# Altium schematic symbol library Sch_Lib.SchLib: 138 symbols (part 1 of 2)
Pins are listed as number, name and electrical type; pins without a type are passive.

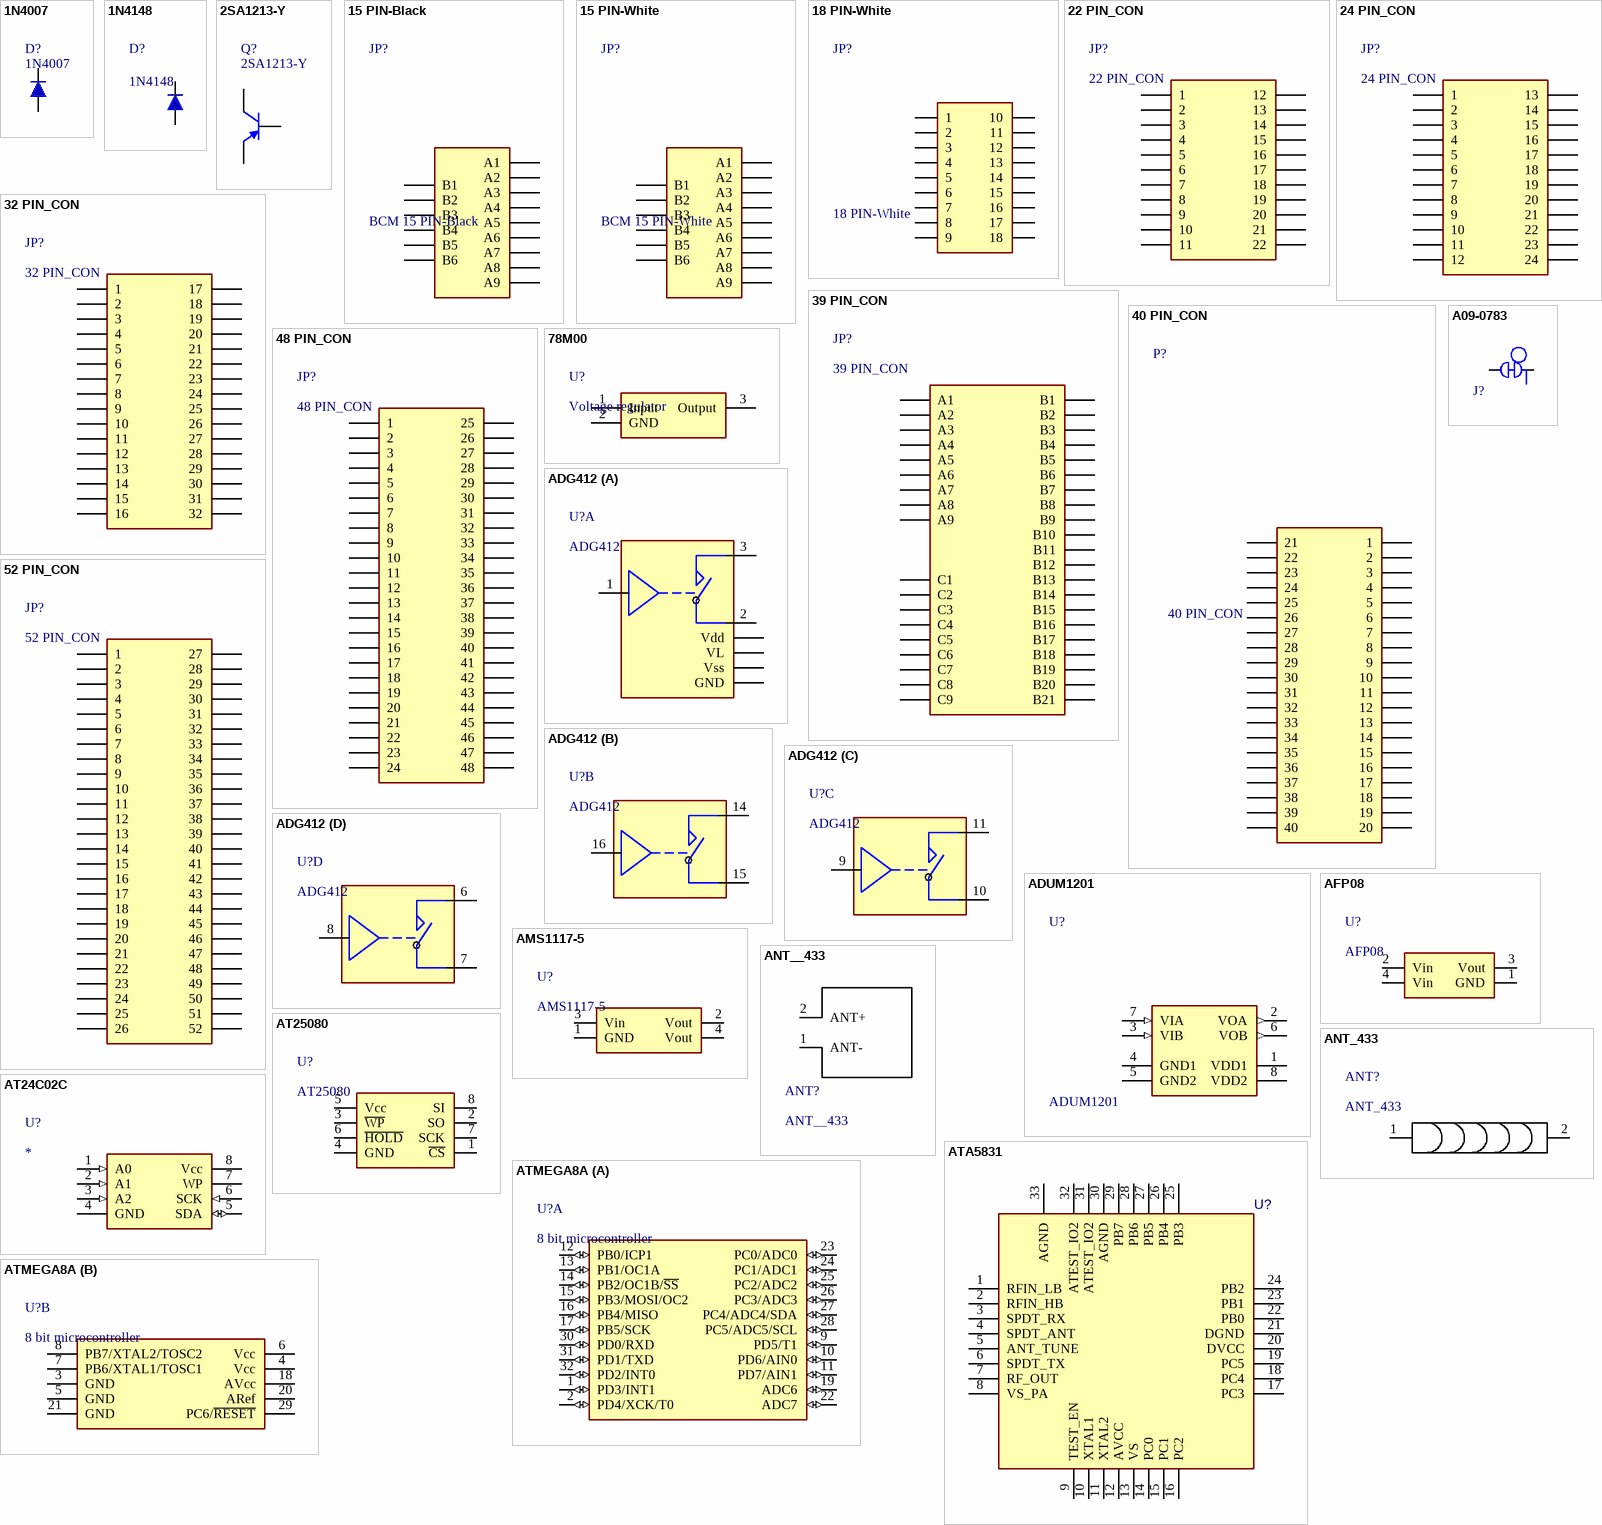
[diagram p0: symbols 1N4007 to ATMEGA8A]

## 1N4007
designator D?
Standard Rectifiers; Part. No: M7
footprint DO_214AC (DIOM505270X240)
pins: 1, 2

## 1N4148
designator D?
DIODE, HIGH SPEED,SMD  SOD-123F; MP: 1N4148W; MF: Micro Commercial; Price: None; Availability: In Stock; Package: SOD-123 Multicomp; SnapEDA_Link: https://www.snapeda.com/parts/1N4148W/Micro%20Commercial/view-part/134617/?ref=snap; Check_prices: https://www.snapeda.com/parts/1N4148W/Micro%20Commercial/view-part/134617/?ref=eda; Value: *
pins: 1, 2

## 2SA1213-Y
designator Q?
PNP / Silicon Epitaxial / Transistors; Published: 8-Jun-2000; LatestRevisionDate: 29-May-2009; LatestRevisionNote: IPC-7351 Footprint Added.; PackageVersion: Aug-1999; PackageReference: SOT-23B; Publisher: Altium Limited; PackageDescription: 3-Pin SOT-23 Package 0.95 mm Pitch, 2.4 mm Lead Span
footprint 2SA1213-Y
pins: 1 B, 2 E, 3 C

## 15 PIN-Black
designator JP?, comment BCM 15 PIN-Black
BCM connector
footprint 15_PIN_CON_B (BALCK)
pins: A1, A2, A3, A4, A5, A6, A7, A8, A9, B1, B2, B3, B4, B5, B6

## 15 PIN-White
designator JP?, comment BCM 15 PIN-White
BCM connector
footprint 15_PIN_CON_W (WHITE)
pins: A1, A2, A3, A4, A5, A6, A7, A8, A9, B1, B2, B3, B4, B5, B6

## 18 PIN-White
designator JP?
Cluster White Connector 18 PIN
footprint 18_PIN_CON (WHITE)
pins: 1, 2, 3, 4, 5, 6, 7, 8, 9, 10, 11, 12, 13, 14, 15, 16, 17, 18

## 22 PIN_CON
designator JP?
22 PIN connector
footprint 22_PIN_CON
pins: 1, 2, 3, 4, 5, 6, 7, 8, 9, 10, 11, 12, 13, 14, 15, 16, 17, 18, 19, 20, 21, 22

## 24 PIN_CON
designator JP?
24 PIN connector
footprint 24_PIN_CON
pins: 1, 2, 3, 4, 5, 6, 7, 8, 9, 10, 11, 12, 13, 14, 15, 16, 17, 18, 19, 20, 21, 22, 23, 24

## 32 PIN_CON
designator JP?
32 PIN connector
footprint 32_PIN_CON
pins: 1, 2, 3, 4, 5, 6, 7, 8, 9, 10, 11, 12, 13, 14, 15, 16, 17, 18, 19, 20, 21, 22, 23, 24, 25, 26, 27, 28, 29, 30, 31, 32

## 39 PIN_CON
designator JP?
39 PIN connector
footprint 39_PIN_CON
pins: A1, A2, A3, A4, A5, A6, A7, A8, A9, B1, B2, B3, B4, B5, B6, B7, B8, B9, B10, B11, B12, B13, B14, B15, B16, B17, B18, B19, B20, B21, C1, C2, C3, C4, C5, C6, C7, C8, C9

## 40 PIN_CON
designator P?
40 PIN black connector
footprint 40_PIN_CON
pins: 1, 2, 3, 4, 5, 6, 7, 8, 9, 10, 11, 12, 13, 14, 15, 16, 17, 18, 19, 20, 21, 22, 23, 24, 25, 26, 27, 28, 29, 30, 31, 32, 33, 34, 35, 36, 37, 38, 39, 40

## 48 PIN_CON
designator JP?
48 PIN connector
footprint 48_PIN_CON
pins: 1, 2, 3, 4, 5, 6, 7, 8, 9, 10, 11, 12, 13, 14, 15, 16, 17, 18, 19, 20, 21, 22, 23, 24, 25, 26, 27, 28, 29, 30, 31, 32, 33, 34, 35, 36, 37, 38, 39, 40, 41, 42, 43, 44, 45, 46, 47, 48

## 52 PIN_CON
designator JP?
52 PIN connector
footprint 52_PIN_CON
pins: 1, 2, 3, 4, 5, 6, 7, 8, 9, 10, 11, 12, 13, 14, 15, 16, 17, 18, 19, 20, 21, 22, 23, 24, 25, 26, 27, 28, 29, 30, 31, 32, 33, 34, 35, 36, 37, 38, 39, 40, 41, 42, 43, 44, 45, 46, 47, 48, 49, 50, 51, 52

## 78M00
designator U?, comment Voltage regulator
Positive voltage regulator ICs
footprint D2PAK_2 (D2PAK-3, FMG500_3_S1000)
pins: 1 Input, 2 GND, 3 Output

## A09-0783
designator J?  (net tie, no BOM)
Default closed SMD strap, 0603 size; PartGroup: Mechanical devices,PCB implemented components; AN: A09-0783; Height: 0
footprint AP9-00044 (SMD0603)
pins: 1, 2

## ADG412
designator U?
The ADG412 contains four independent SPST switches. A logic high is required for the ADG412.
footprint SO16_N (16-Pin Small Outline Integrated Circuit 1.27 mm Pitch, IPC Medium Density - DESIGNER ABBAS BASEREH)
part A pins: 1 IN1, 2 D1, 3 S1, 4 Vss, 5 GND, 12 VL, 13 Vdd
part B pins: 14 S3, 15 D2, 16 IN2
part C pins: 9 IN3, 10 D3, 11 S3
part D pins: 6 S4, 7 D4, 8 IN4

## ADUM1201
designator U?
Dual-Channel Digital Isolators
footprint ADUM1201 (SOIC-8)
pins: 1 VDD1 (power), 2 VOA (out), 3 VIB (in), 4 GND1, 5 GND2, 6 VOB (out), 7 VIA (in), 8 VDD2 (power)

## AFP08
designator U?
+5 voltage regulator
footprint SOT223 (SOT223, 4-Leads, Body 6.5x3.5mm, Pitch 2.30mm-Designer Abbas Basereh)
pins: 1 GND (power), 2 Vin (power), 3 Vout (power), 4 Vin (power)

## AMS1117-5
designator U?
+5 voltage regulator
footprint SOT223 (SOT223, 4-Leads, Body 6.5x3.5mm, Pitch 2.30mm-Designer Abbas Basereh)
pins: 1 GND (power), 2 Vout (power), 3 Vin (power), 4 Vout (power)

## ANT_433
designator ANT?
TMPS 433 MHz antenna
footprint Antenna (433MHz_TPMS)
pins: 1 In, 2 Out

## ANT__433
designator ANT?
433Mhz Antenna 10 CM
footprint UHF_ANT
pins: 1 ANT-, 2 ANT+

## AT24C02C
designator U?
I²C-Compatible (Two-Wire) Serial EEPROM / 1‑Kbit (128 x 8), 2‑Kbit (256 x 8)
footprint SO_8 (SOP-8, 5x3.9mm body 1.27mm pitch, SOT96-1, M08A, S8, SOIC8, VO8, MS-012AA(JEDEC), R-8, 8S2, VOG8)
pins: 1 A0 (in), 2 A1 (in), 3 A2 (in), 4 GND (power), 5 SDA (io), 6 SCK (in), 7 WP, 8 Vcc (power)

## AT25080
designator U?
SPI serial EEPROM 8K
footprint so_8 (SOP-8, 5x3.9mm body 1.27mm pitch, SOT96-1, M08A, S8, SOIC8, VO8, MS-012AA(JEDEC), R-8, 8S2, VOG8)
pins: 1 ~{CS}, 2 SO, 3 ~{WP}, 4 GND, 5 Vcc, 6 ~{HOLD}, 7 SCK, 8 SI

## ATA5831
designator U?  (value not drawn)
UHF ASK/FSK Transceiver / 20Kbyte of user flash; Revision: A; ComponentLink5Description: Open Footprint 2; ComponentLink6Description: Open Footprint 3; ComponentLink7Description: Open Footprint 4; Operating Temperature: -40C to +105C
footprint Model Name (Model Description)
footprint Model Name (Model Description)
footprint QFN-32_5X5_EP3.7X3.7 (QFN32_5MMwith ePAD)
pins: 1 RFIN_LB, 2 RFIN_HB, 3 SPDT_RX, 4 SPDT_ANT, 5 ANT_TUNE, 6 SPDT_TX, 7 RF_OUT, 8 VS_PA, 9 TEST_EN, 10 XTAL1, 11 XTAL2, 12 AVCC, 13 VS, 14 PC0, 15 PC1, 16 PC2, 17 PC3, 18 PC4, 19 PC5, 20 DVCC, 21 DGND, 22 PB0, 23 PB1, 24 PB2, 25 PB3, 26 PB4, 27 PB5, 28 PB6, 29 PB7, 30 AGND, 31 ATEST_IO2, 32 ATEST_IO2, 33 AGND

## ATMEGA8A
designator U?, comment 8 bit microcontroller
Low-power AVR 8-bit Microcontroller / 512Bytes EEPROM / 1KByte Internal SRAM / Write/Erase Cycles: 10,000
footprint Model Name (Model Description)
footprint Model Name (Model Description)
footprint Model Name (Model Description)
part A pins: 1 PD3/INT1 (io), 2 PD4/XCK/T0 (io), 9 PD5/T1 (io), 10 PD6/AIN0 (io), 11 PD7/AIN1 (io), 12 PB0/ICP1 (io), 13 PB1/OC1A (io), 14 PB2/OC1B/~{SS} (io), 15 PB3/MOSI/OC2 (io), 16 PB4/MISO (io), 17 PB5/SCK (io), 19 ADC6 (io), 22 ADC7 (io), 23 PC0/ADC0 (io), 24 PC1/ADC1 (io), 25 PC2/ADC2 (io), 26 PC3/ADC3 (io), 27 PC4/ADC4/SDA (io), 28 PC5/ADC5/SCL (io), 30 PD0/RXD (io), 31 PD1/TXD (io), 32 PD2/INT0 (io)
part B pins: 3 GND, 4 Vcc, 5 GND, 6 Vcc, 7 PB6/XTAL1/TOSC1, 8 PB7/XTAL2/TOSC2, 18 AVcc, 20 ARef, 21 GND, 29 PC6/~{RESET}

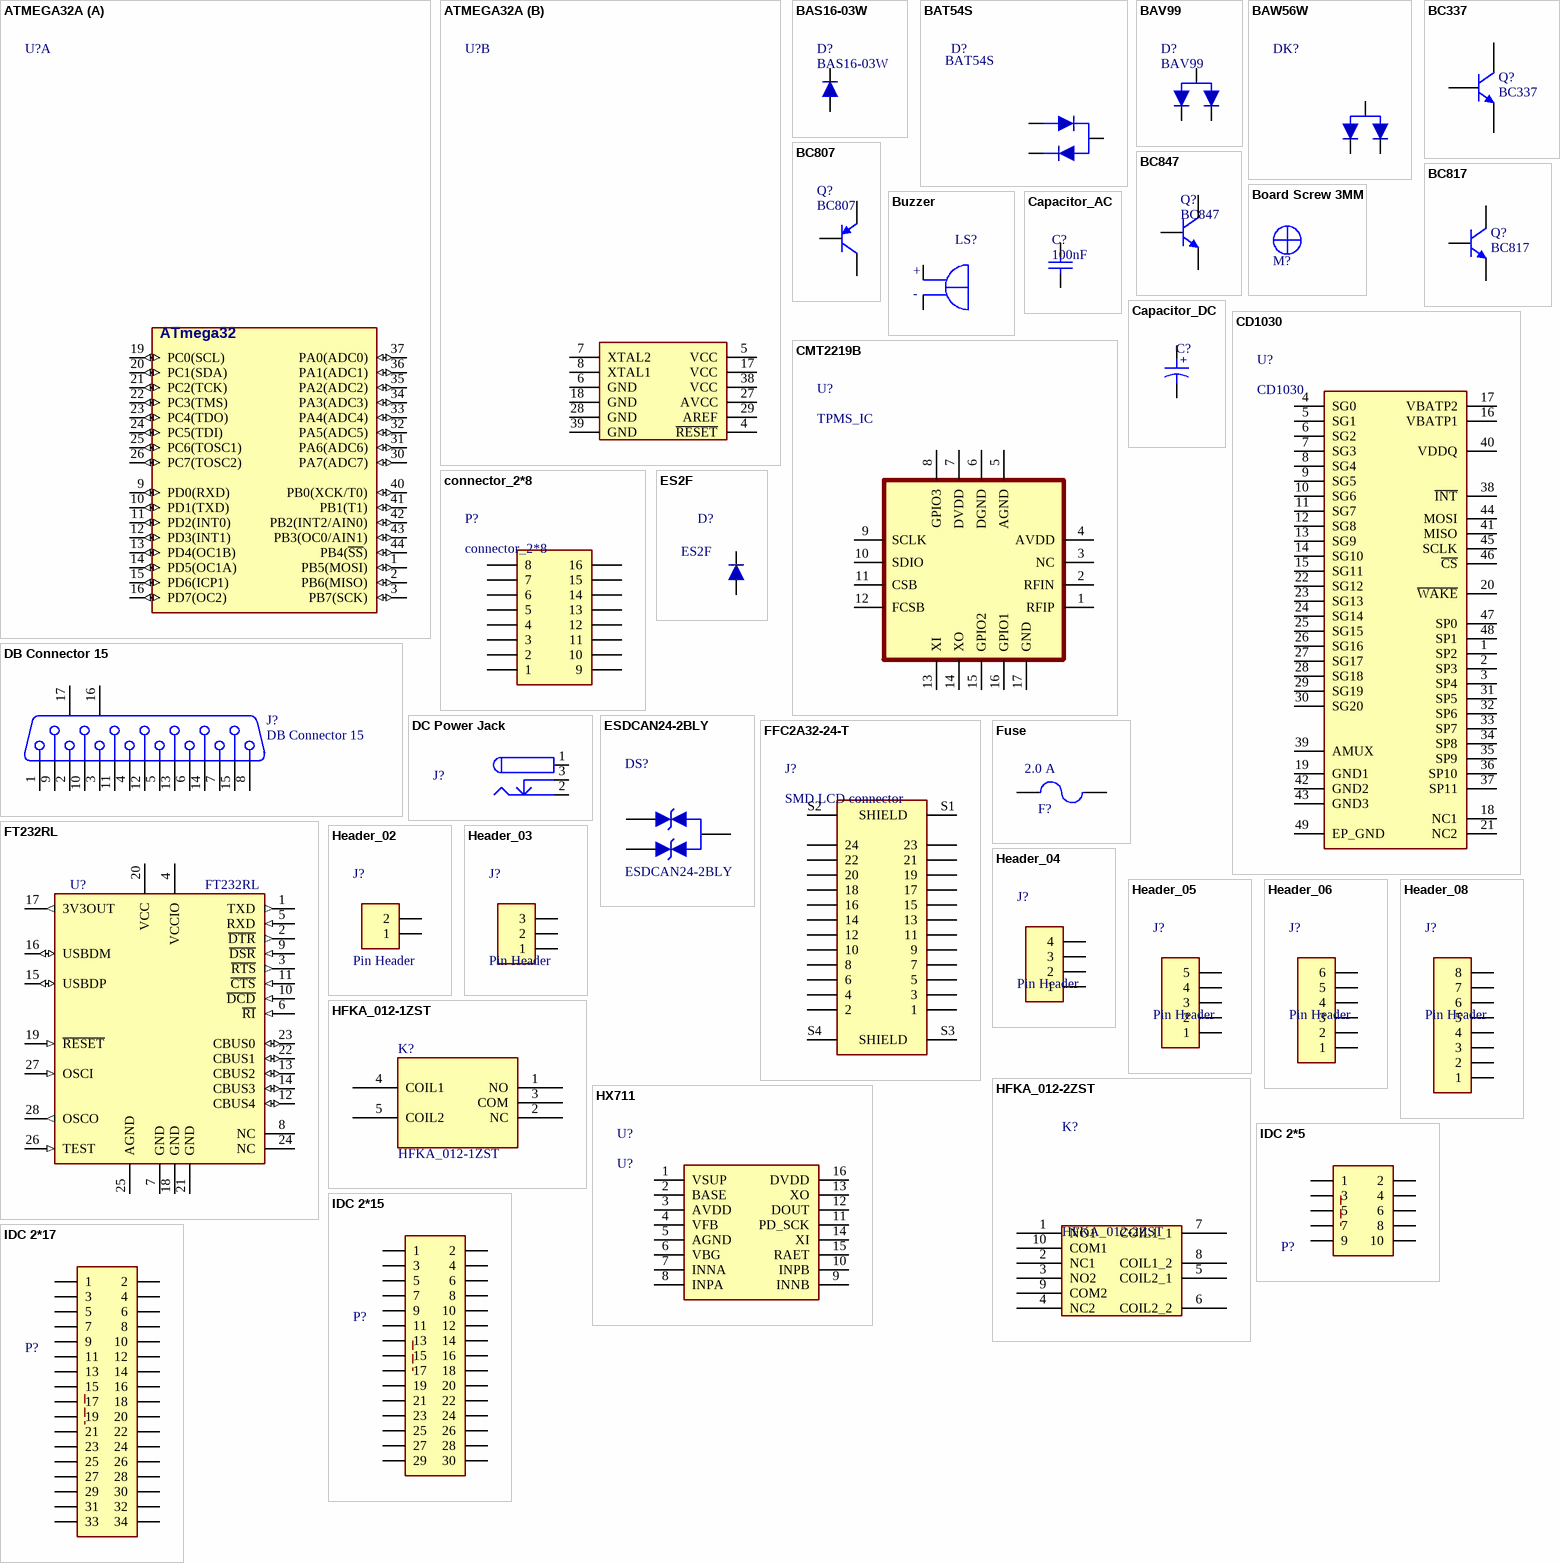
[diagram p1: symbols ATMEGA32A to IDC 2*17]

## ATMEGA32A
designator U?
MCU, AVR, 8-Bit, 32KB, 2KB RAM, 16MHz; MANF_P#: ATMEGA32A-AU; DESC: 1KB EEPROM; MANF: ATMEL/MICROCHIP; PARAM2: 2.7~5.5V; PARAM: 32KB, 2KB RAM, 16MHz, -40~85°C; VALUE: ATMEGA32; PRICE: 3$
footprint QFG80_44 (TQFP44, PQFP44, A44 (Cypress), QFP44/MQFP44N (Dallas), VQ44,VQG44 (Xilinx), MS-026ACB, MS-022AB(JEDEC), 44A, 10.5X10.5, 0.8mm)
footprint QFG80_44 (TQFP44, PQFP44, A44 (Cypress), QFP44/MQFP44N (Dallas), VQ44,VQG44 (Xilinx), MS-026ACB, MS-022AB(JEDEC), 44A, 10.5X10.5, 0.8mm)
part A pins: 1 PB5(MOSI) (io), 2 PB6(MISO) (io), 3 PB7(SCK) (io), 9 PD0(RXD) (io), 10 PD1(TXD) (io), 11 PD2(INT0) (io), 12 PD3(INT1) (io), 13 PD4(OC1B) (io), 14 PD5(OC1A) (io), 15 PD6(ICP1) (io), 16 PD7(OC2) (io), 19 PC0(SCL) (io), 20 PC1(SDA) (io), 21 PC2(TCK) (io), 22 PC3(TMS) (io), 23 PC4(TDO) (io), 24 PC5(TDI) (io), 25 PC6(TOSC1) (io), 26 PC7(TOSC2) (io), 30 PA7(ADC7) (io), 31 PA6(ADC6) (io), 32 PA5(ADC5) (io), 33 PA4(ADC4) (io), 34 PA3(ADC3) (io), 35 PA2(ADC2) (io), 36 PA1(ADC1) (io), 37 PA0(ADC0) (io), 40 PB0(XCK/T0) (io), 41 PB1(T1) (io), 42 PB2(INT2/AIN0) (io), 43 PB3(OC0/AIN1) (io), 44 PB4(~{SS}) (io)
part B pins: 4 ~{RESET} (power), 5 VCC (power), 6 GND (power), 7 XTAL2 (power), 8 XTAL1 (power), 17 VCC (power), 18 GND (power), 27 AVCC (power), 28 GND (power), 29 AREF (power), 38 VCC (power), 39 GND (power)
part A text: ATmega32

## BAS16-03W
designator D?
Standard Rectifiers
footprint SOD323 (2.254 MM)
pins: 1, 2

## BAT54S
designator D?
Diode Array 1 Pair Series Connection Schottky 30V 200mA Surface Mount TO-236-3, SC-59, SOT-23-3; MF: ON Semiconductor; Price: None; Value: *; Package: SOT-23-3 ON Semiconductor; Availability: Unavailable; SnapEDA_Link: https://www.snapeda.com/parts/BAT54S/ON%20Semiconductor/view-part/1737355/?ref=snap; MP: BAT54S
footprint SOT95P240X120-3N
pins: 1, 2, 3

## BAV99
designator D?
High Conductance Ultra Fast Diode
footprint Diode 1n4148 SMD (Mini MELF SOD-80)
footprint SOT23_N
pins: 1, 2, 3

## BAW56W
designator DK?  (value not drawn)
Diode Array 1 Pair Series Connection Fast Switching Speed / SOT-323; MF: ON Semiconductor; MP: BAT54S; Price: None; Value: *; Package: SOT-23-3 ON Semiconductor; Availability: Unavailable; SnapEDA_Link: https://www.snapeda.com/parts/BAT54S/ON%20Semiconductor/view-part/1737355/?ref=snap
footprint SOT323
pins: 1, 2, 3

## BC337
designator Q?
NPN general-purpose transistors; Published: 2017-2-8; LatestRevisionDate: 2017; LatestRevisionNote: IPC-7351 Footprint Added.; DatasheetVersion: 2017; PackageVersion: 2017-2-8; PackageReference: SOT23; Publisher: Abbas Basereh; PackageDescription: 3-Pin SOT-23 Package 0.95 mm Pitch, 2.3 mm Lead Span; ComponentLink1Description: Manufacturer Link; ComponentLink1URL: http://www.nxp.com/; ComponentLink2Description: Datasheet; ComponentLink2URL: http://www.nxp.com/
footprint SOT23_BEC_N (SOT23, 3-Leads, Body 2.9x1.3mm, Pitch 0.95mm, Lead Span 2.4mm, IPC Medium Density)
pins: 1 B, 2 E, 3 C

## BC807
designator Q?
PNP General-purpose Transistor; Published: 8-Jun-2000; LatestRevisionDate: 29-May-2009; LatestRevisionNote: IPC-7351 Footprint Added.; PackageVersion: Aug-1999; PackageReference: SOT-23B; Publisher: Altium Limited; PackageDescription: 3-Pin SOT-23 Package 0.95 mm Pitch, 2.4 mm Lead Span
signal-integrity model PNP
footprint SOT23_3 (SOT-23, Micro3, MO-178, TO-236AB, MO-193C, SuperSOT3, SC-59, 1.9mm pitch 3X1.5mm body)
pins: 1 B, 2 E, 3 C

## BC817
designator Q?
NPN general-purpose transistors; Published: 2024-06-18; PackageReference: SOT23; Publisher: Amir Alizadeh; PackageDescription: 3-Pin SOT-23 Package 0.95 mm Pitch, 2.3 mm Lead Span
footprint SOT23_33 (SOT-23, Micro3, MO-178, TO-236AB, MO-193C, SuperSOT3, SC-59, 1.9mm pitch 3X1.5mm body)
pins: 1 B, 2 E, 3 C

## BC847
designator Q?
NPN general-purpose transistors; Published: 2017-2-8; LatestRevisionDate: 2017; LatestRevisionNote: IPC-7351 Footprint Added.; DatasheetVersion: 2017; PackageVersion: 2017-2-8; PackageReference: SOT23; Publisher: Abbas Basereh; PackageDescription: 3-Pin SOT-23 Package 0.95 mm Pitch, 2.3 mm Lead Span; ComponentLink1Description: Manufacturer Link; ComponentLink1URL: http://www.nxp.com/; ComponentLink2Description: Datasheet; ComponentLink2URL: http://www.nxp.com/
footprint SOT23_3 (SOT-23, Micro3, MO-178, TO-236AB, MO-193C, SuperSOT3, SC-59, 1.9mm pitch 3X1.5mm body)
pins: 1 B, 2 E, 3 C

## Board Screw 3MM
designator M?, comment Screw  (value not drawn)
Board Screw With Spacer
footprint Board Screw
footprint Board Screw 3mm

## Buzzer
designator LS?
2.0KHz, 90dB, High SPL, Low Frequency Buzzer Transducer / KPEG116; P/N: KPEG116
footprint BUZZER_15mm
footprint BUZZER_17mm
footprint BUZZER_30mm
pins: N, P
text: +; -

## Capacitor_AC
designator C?, comment 100nF
AC Capacitor; Designer: Abbas Basereh; Desc.: CAP SMD TOTAL PACKAGES; Data: 2017-3-10; VALUE: 100nF
signal-integrity model CAP SMD (CAP SMD PACK)
footprint SMD0402 (2-Leads, Body 1/00x0/50mm)
footprint SMD0603 (2-Leads, Body 1/60x0/80mm)
footprint SMD0805 (2-Leads, Body 2/00x1/25mm)
footprint SMD1206 (2-Leads, Body 3/20x1/60mm)
footprint SMD2010 (2-Leads, Body 5/00x2/50mm)
footprint SMD2512 (Chip Resistor, 2-Leads, Body 6.3x3.1mm, IPC High Density _ (0.500 W))
footprint SMD7030 (2-Leads, Body 30/70mm,)
pins: 1, 2

## Capacitor_DC
designator C?
DC Capacitor; Part. No: 100U/50V; Designer: Abbas Basereh; Data: 16-12-2016
footprint C_EL_8 (Electrolytic Cap, Size E, Size F, 8.3X10)
footprint C_EL_5 (Electrolytic Cap, D: 5.0mm, L: 5.8mm, Size C)
footprint C_EL_10 (Electrolytic Cap, 10.3mm, L: 10mm)
footprint C_EL_10_DIP (Cap electrolitic radial 10x16-5-Design:Abbas Basereh)
footprint C_TAN_6032 (CAPACITOR, TAN C, TAN F, TAN U, TAN L, 6032P, 6.0X3.2mm)
footprint C_TAN_7343 (CAPACITOR, TAN D, TAN E, TAN Y, TAN X, 7343P, 7.3X4.3mm)
pins: 1, 2
1 alternate drawing of the same symbol
text: +

## CD1030
designator U?
33 channel multiple switch detection / interface with programmable wetting / current
footprint LQFP-EP_48-Pin
pins: 1 SP2, 2 SP3, 3 SP4, 4 SG0, 5 SG1, 6 SG2, 7 SG3, 8 SG4, 9 SG5, 10 SG6, 11 SG7, 12 SG8, 13 SG9, 14 SG10, 15 SG11, 16 VBATP1, 17 VBATP2, 18 NC1, 19 GND1, 20 ~{WAKE}, 21 NC2, 22 SG12, 23 SG13, 24 SG14, 25 SG15, 26 SG16, 27 SG17, 28 SG18, 29 SG19, 30 SG20, 31 SP5, 32 SP6, 33 SP7, 34 SP8, 35 SP9, 36 SP10, 37 SP11, 38 ~{INT}, 39 AMUX, 40 VDDQ, 41 MISO, 42 GND2, 43 GND3, 44 MOSI, 45 SCLK, 46 ~{CS}, 47 SP0, 48 SP1, 49 EP_GND

## CMT2219B
designator U?, comment TPMS_IC
Ultra Low Power Sub-1GHz RF Receiver-TPMS
footprint QFN16 (QFN16-300X300X65-17N)
pins: 1 RFIP, 2 RFIN, 3 NC (power), 4 AVDD (power), 5 AGND (power), 6 DGND (power), 7 DVDD (power), 8 GPIO3, 9 SCLK, 10 SDIO, 11 CSB, 12 FCSB, 13 XI, 14 XO, 15 GPIO2, 16 GPIO1, 17 GND (power)

## connector_2*8
designator P?
Male 16 Pin TPMS uint connector
footprint Connector_2*8
pins: 1, 2, 3, 4, 5, 6, 7, 8, 9, 10, 11, 12, 13, 14, 15, 16

## DB Connector 15
designator J?
Receptacle Assembly, 15 Position, Right Angle; PackageDocument: O; Positions: 15; Published: 15-Jun-2001; LatestRevisionDate: 17-Jul-2002; LatestRevisionNote: Re-released for DXP Platform.; DatasheetDocument: 1-Sep-99; PackageReference: 788757; Publisher: Altium Limited; Orientation: Right Angle; Gender: Receptacle
signal-integrity model Connector
footprint DSUB-2H15 (Connector; D Subminiature; 15 Position; Right Angle; Pitch 1.385 mm)
pins: 1, 2, 3, 4, 5, 6, 7, 8, 9, 10, 11, 12, 13, 14, 15, 16 MH1, 17 MH2

## DC Power Jack
designator J?  (value not drawn)
DC Power Jack. Center Pin 2.5mm. Diameter: 5.7mm; Designer: Ali Hafizi; Company: Personal; Project Name: Laser; Adding Date: 10/21/2009
footprint DC Power Jack 1 (Power Adaptor Jack)
footprint DC Power Jack 2 (DC Power Jack. Center Pin 2.5mm. Diameter: 5.7mm)
pins: 1 (power), 2 (power), 3 (power)

## ES2F
designator D?
Surface-Mount Ultrafast Plastic Rectifier / Vishay General Semiconductor; MP: ES2F; Value: *; Price: None; Availability: Unavailable; Package: None
footprint DIOM4336X265N
pins: 1, 2

## ESDCAN24-2BLY
designator DS?
TVS Diode 26.5V 44V SOT323-3 for CAN connection; Manufacturer: STMicroelectronics; Manufacturer Part Number: ESDCAN02-2BWY; Value: 3pF; Direction: Bidirectional; Breakdown Voltage: 28.5V; Automotive Grade: Grade 0; Standoff Height: 0mm; Peak Pulse Power: 170W; Peak Pulse Current: 3A; Number Of Channels: 2; Max Junction Temp: +175°C; Mouser Description: TVS Diodes / ESD Suppressors Automotive dual-line Transil, Transient voltage suppressor (TVS) for CAN bus; Height: 1.1mm; Category: Diode; Reverse Standoff Voltage: 26.5V; Device Class L1: Circuit Protection; Temperature: -55°C to +175°C; RoHS: TRUE; ComponentLink2URL: https://www.st.com/resource/en/datasheet/esdcan02-2bwy.pdf; Device Class L3: unset; Device Class L2: TVS Diodes; Temperature Range High: +175°C; Octopart: https://octopart.com/esdcan02-2bwy-stmicroelectronics-58631133; Ipc Land Pattern Name: SOT65P210X95-3; Temperature Range Low: -55°C; Capacitance: 3pF; Digikey Description: TVS DIODE 26.5V 44V SOT323-3; Automotive: Yes; ComponentLink2Description: Datasheet; Clamping Voltage: 44V; Lead Free: Yes; Package: SOT323-3L
footprint FP-SOT323-3L-MFG
footprint FP-SOT323-3L-IPC_C
footprint FP-SOT323-3L-IPC_B
footprint FP-SOT323-3L-IPC_A
footprint ESDCAN24-BLY
pins: 1 (power), 2 (power), 3 (power)

## FFC2A32-24-T
designator J?, comment SMD LCD connector
24 Position FFC, FPC Connector Contacts, Vertical - 1 Sided 0.020 (0.50mm) Surface Mount; MP: FFC2A32-24-T; MF: Global Connector Technology; Value: *; SnapEDA_Link: https://www.snapeda.com/parts/FFC2A32-24-T/Global+Connector+Technology/view-part/?ref=snap; Purchase-URL: https://pricing.snapeda.com/search/part/FFC2A32-24-T/?ref=eda; Check_prices: https://www.snapeda.com/parts/FFC2A32-24-T/Global+Connector+Technology/view-part/?ref=eda; Availability: In Stock; Price: None; Package: None
footprint FFC2A32-24-T
pins: 1, 2, 3, 4, 5, 6, 7, 8, 9, 10, 11, 12, 13, 14, 15, 16, 17, 18, 19, 20, 21, 22, 23, 24, S1 SHIELD, S2     SHIELD, S3 SHIELD, S4     SHIELD

## FT232RL
designator U?
USB UART Asynchronous Serial Data Transfer Chip, SSOP-28, Tape and Reel; Published: 19-Aug-2010; DatasheetVersion: ver 2.07, Jul-2010; PackageVersion: 2010; PackageReference: SSOP-28; Publisher: Altium Limited; PackageDescription: 28-Pin Small Outline Package 0.65 mm Pitch; ComponentLink1Description: Manufacturer Link; ComponentLink1URL: http://www.ftdichip.com/Products/ICs/FT232R.htm; ComponentLink2Description: Datasheet; ComponentLink2URL: http://www.ftdichip.com/Support/Documents/DataSheets/ICs/DS_FT232R.pdf
footprint SSOP-28_N (SOP, 28-Leads, Body 10.2x5.3mm, Pitch 0.65mm, IPC Medium Density)
footprint SSOP-28_L (SOP, 28-Leads, Body 10.2x5.3mm, Pitch 0.65mm, IPC High Density)
footprint SSOP-28_M (SOP, 28-Leads, Body 10.2x5.3mm, Pitch 0.65mm, IPC Low Density)
pins: 1 TXD (out), 2 ~{DTR} (out), 3 ~{RTS} (out), 4 VCCIO (power), 5 RXD (in), 6 ~{RI} (in), 7 GND (power), 8 NC, 9 ~{DSR} (in), 10 ~{DCD} (in), 11 ~{CTS} (in), 12 CBUS4 (io), 13 CBUS2 (io), 14 CBUS3 (io), 15 USBDP (io), 16 USBDM (io), 17 3V3OUT (out), 18 GND (power), 19 ~{RESET} (in), 20 VCC (power), 21 GND (power), 22 CBUS1 (io), 23 CBUS0 (io), 24 NC, 25 AGND (power), 26 TEST (in), 27 OSCI (in), 28 OSCO (out)

## Fuse
designator F?, comment 2.0 A
SMD Fuses 1206; Designer: Abbas Basereh; Desc.: SMD Fuses 1206; Data: 16-12-2016
footprint 1206 FUSE (Fast Acting Smd 1206 non-Resettable Fuse Chip For Pcb Board)
pins: 1, 2

## Header_02
designator J?, comment Pin Header
2 Pin Header 2.54mm; ComponentLink1Description: Header, Nominal current: 12 A Rated voltage (III/2): 320 V Number of positions: 5 Pitch: 5 mm Color: green Contact surface: Tin Assembly: Soldering  DESIGNER:ABBAS BASEREH; ComponentLink2Description: Reference
footprint MSTBV 2,5/6-G-5 (Header, Nominal current: 12 A Rated voltage (III/2): 320 V Number of positions: 6 Pitch: 5mm Color: green Contact surface: Tin Assembly: Soldering  DESIGNER ABBAS BASEREH)
footprint HDR_M_1X2 (Connector; Header; 2 Position)
pins: 1, 2

## Header_03
designator J?, comment Pin Header
3 Pin Header 2.54mm; ComponentLink1Description: Header, Nominal current: 12 A Rated voltage (III/2): 320 V Number of positions: 5 Pitch: 5 mm Color: green Contact surface: Tin Assembly: Soldering  DESIGNER:ABBAS BASEREH; ComponentLink2Description: Reference
footprint HDR_M_1X3 (Connector; Header; 3 Position)
pins: 1, 2, 3

## Header_04
designator J?, comment Pin Header
4 Pin Header 2.54mm; ComponentLink1Description: Header, Nominal current: 12 A Rated voltage (III/2): 320 V Number of positions: 5 Pitch: 5 mm Color: green Contact surface: Tin Assembly: Soldering  DESIGNER:ABBAS BASEREH; ComponentLink2Description: Reference
footprint HDR_M_1X4 (Connector; Header; 4 Position)
pins: 1, 2, 3, 4

## Header_05
designator J?, comment Pin Header
5 Pin Header 2.54mm; ComponentLink1Description: Header, Nominal current: 12 A Rated voltage (III/2): 320 V Number of positions: 5 Pitch: 5 mm Color: green Contact surface: Tin Assembly: Soldering  DESIGNER:ABBAS BASEREH; ComponentLink2Description: Reference
footprint HDR_M_1X5 (Connector; Header; 5 Position)
pins: 1, 2, 3, 4, 5

## Header_06
designator J?, comment Pin Header
6 Pin Header 2.54mm; ComponentLink1Description: Header, Nominal current: 12 A Rated voltage (III/2): 320 V Number of positions: 5 Pitch: 5 mm Color: green Contact surface: Tin Assembly: Soldering  DESIGNER:ABBAS BASEREH; ComponentLink2Description: Reference
footprint HDR_M_1X6 (Connector; Header; 6 Position)
pins: 1, 2, 3, 4, 5, 6

## Header_08
designator J?, comment Pin Header
8 Pin Header 2.54mm; ComponentLink1Description: Header, Nominal current: 12 A Rated voltage (III/2): 320 V Number of positions: 5 Pitch: 5 mm Color: green Contact surface: Tin Assembly: Soldering  DESIGNER:ABBAS BASEREH; ComponentLink2Description: Reference
pins: 1, 2, 3, 4, 5, 6, 7, 8

## HFKA_012-1ZST
designator K?
Single automative 12Volt relay
footprint HFKA_Relay - single
pins: 1 NO, 2 NC, 3 COM, 4 COIL1, 5 COIL2

## HFKA_012-2ZST
designator K?
Dual automative 12 V Relay
footprint HFKA_Relay - Dual
pins: 1 NO1, 2 NC1, 3 NO2, 4 NC2, 5 COIL2_1, 6 COIL2_2, 7 COIL1_1, 8 COIL1_2, 9 COM2, 10 COM1

## HX711
designator U?, comment U?
24-Bit Analog-to-Digital Converter (ADC) for Weigh Scales
footprint SOP50P600X148-17N
pins: 1 VSUP, 2 BASE, 3 AVDD, 4 VFB, 5 AGND, 6 VBG, 7 INNA, 8 INPA, 9 INNB, 10 INPB, 11 PD_SCK, 12 DOUT, 13 XO, 14 XI, 15 RAET, 16 DVDD

## IDC 2*5
designator P?, comment CONNECTOR_IDC_5X2  (value not drawn)
2.54mm, IDC, 5-Pin, Dual row; Manufacturer: CHINA; designer: ABBAS BASEREH; Connector type: IDC5X2  PROGPIN; Max Current: mA; LatestRevisionDate: 1395-11-17; Publisher: ABBAS BASEREH; Mounting Technology: Through-Hole; Category: Connector; Pin Count: 10; Status: Unreleased; ComponentLink1Description: Datasheet; ComponentLink2Description: Reference; Update: 2017-2-4
signal-integrity model IDC PIN CONNECTOR (DESIGNED BY ABBAS BASEREH)
footprint IDC2.54-10PIN (Connector; IDC, Low Profile Male Header, Thru-Hole; 10 Position; Vertical; Pitch 2.54 mm; 20.32 x 9.2 x 9.45 mm (LxWxH) DESIGNER : ABBAS BASEREH)
footprint IDC2.54-10PIN WITH CABLE (Connector; IDC, Low Profile Male Header, Thru-Hole; 10 Position; Vertical; Pitch 2.54 mm; 20.32 x 9.2 x 9.45 mm (LxWxH) DESIGNER : ABBAS BASEREH)
footprint IDC2.54-10PIN - CROSS (Connector; IDC, Low Profile Male Header, Thru-Hole; 10 Position; Vertical; Pitch 2.54 mm; 20.32 x 9.2 x 9.45 mm (LxWxH) DESIGNER : ABBAS BASEREH)
footprint IDC2.54-H10C (Connector; IDC, Low Profile Male Header, Thru-Hole; 10 Position; Right Angle; Pitch 2.54 mm; Body 20.32 x 8.9 x 9.2 mm (LxWxH))
footprint IDC2.54-V10D (Connector; IDC, Low Profile Male Header, Thru-Hole; 10 Position; Vertical; Pitch 2.54 mm; Body 20.32 x 9.2 x 9.45 mm (LxWxH))
pins: 1, 2, 3, 4, 5, 6, 7, 8, 9, 10

## IDC 2*15
designator P?, comment CONNECTOR_IDC_5X2  (value not drawn)
2.54mm, IDC, 30-Pin, Dual row; Manufacturer: CHINA; designer: ABBAS BASEREH; Connector type: IDC5X2  PROGPIN; Max Current: mA; LatestRevisionDate: 1395-11-17; Publisher: ABBAS BASEREH; Mounting Technology: Through-Hole; Category: Connector; Pin Count: 10; Status: Unreleased; ComponentLink1Description: Datasheet; ComponentLink2Description: Reference; Update: 2017-2-4
signal-integrity model IDC PIN CONNECTOR (DESIGNED BY ABBAS BASEREH)
footprint IDC_2*15 (100mil_2.54mm)
pins: 1, 2, 3, 4, 5, 6, 7, 8, 9, 10, 11, 12, 13, 14, 15, 16, 17, 18, 19, 20, 21, 22, 23, 24, 25, 26, 27, 28, 29, 30

## IDC 2*17
designator P?, comment CONNECTOR_IDC_5X2  (value not drawn)
2.54mm, IDC, 30-Pin, Dual row; Manufacturer: CHINA; designer: ABBAS BASEREH; Connector type: IDC5X2  PROGPIN; Max Current: mA; LatestRevisionDate: 1395-11-17; Publisher: ABBAS BASEREH; Mounting Technology: Through-Hole; Category: Connector; Pin Count: 10; Status: Unreleased; ComponentLink1Description: Datasheet; ComponentLink2Description: Reference; Update: 2017-2-4
signal-integrity model IDC PIN CONNECTOR (DESIGNED BY ABBAS BASEREH)
footprint IDC_2*17
pins: 1, 2, 3, 4, 5, 6, 7, 8, 9, 10, 11, 12, 13, 14, 15, 16, 17, 18, 19, 20, 21, 22, 23, 24, 25, 26, 27, 28, 29, 30, 31, 32, 33, 34

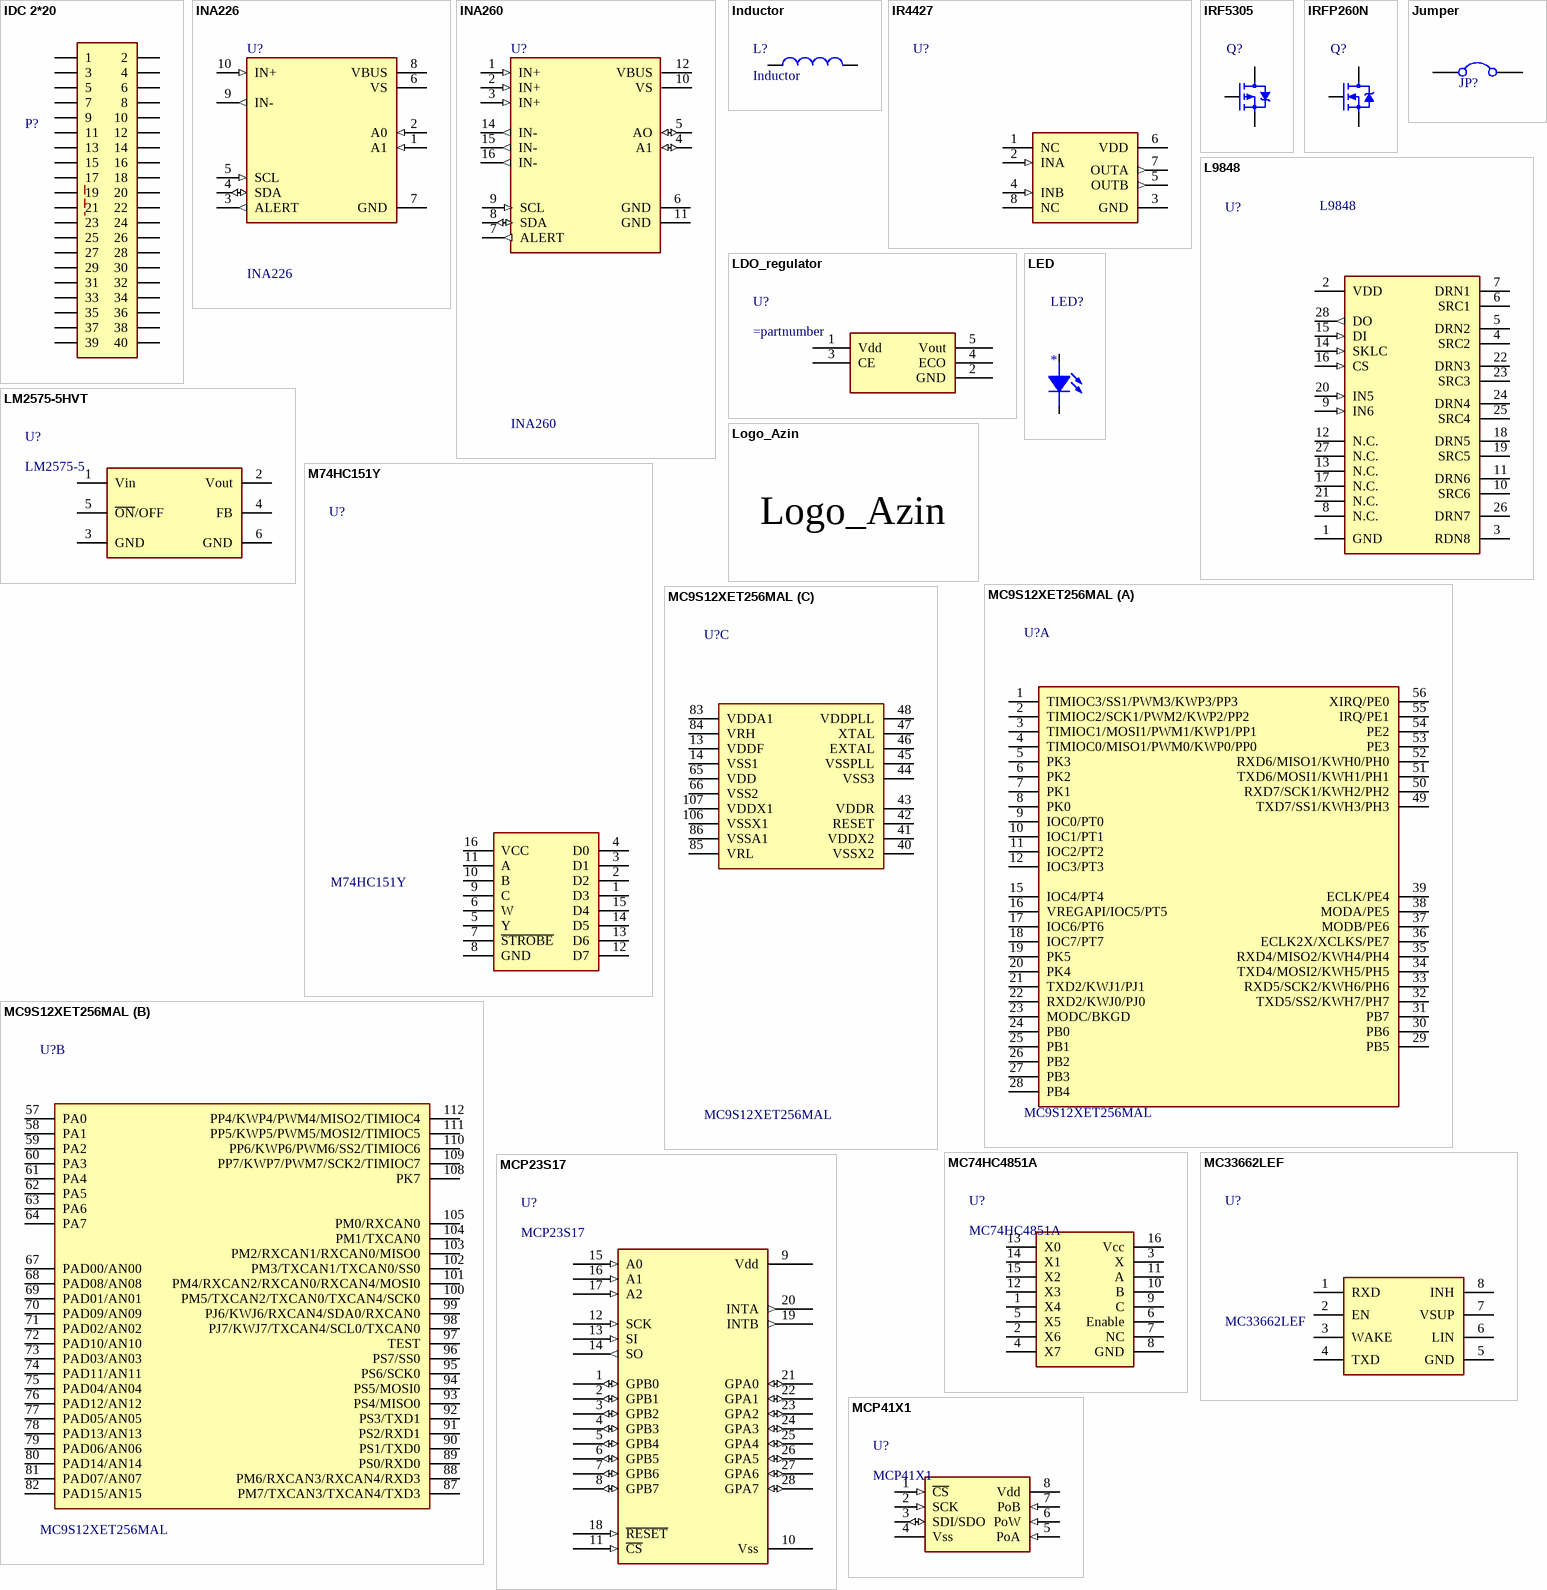
[diagram p2: symbols IDC 2*20 to MCP41X1]

## IDC 2*20
designator P?, comment CONNECTOR_IDC_20X2  (value not drawn)
2.54mm, IDC, 40-Pin, Dual row; Manufacturer: CHINA; designer: ABBAS BASEREH; Connector type: IDC5X2  PROGPIN; Max Current: mA; LatestRevisionDate: 1395-11-17; Publisher: ABBAS BASEREH; Mounting Technology: Through-Hole; Category: Connector; Pin Count: 10; Status: Unreleased; ComponentLink1Description: Datasheet; ComponentLink2Description: Reference; Update: 2017-2-4
signal-integrity model IDC PIN CONNECTOR (DESIGNED BY ABBAS BASEREH)
footprint IDC_2*20 (IDC 40 pin  2.54mm)
pins: 1, 2, 3, 4, 5, 6, 7, 8, 9, 10, 11, 12, 13, 14, 15, 16, 17, 18, 19, 20, 21, 22, 23, 24, 25, 26, 27, 28, 29, 30, 31, 32, 33, 34, 35, 36, 37, 38, 39, 40

## INA226
designator U?
INA226 High-Side or Low-Side Measurement, / Bi-Directional Current and Power Monitor with I2C Compatible Interface
footprint VSSOP-10 (INA226)
pins: 1 A1 (in), 2 A0 (in), 3 ALERT (out), 4 SDA (io), 5 SCL (in), 6 VS (power), 7 GND (power), 8 VBUS (power), 9 IN- (out), 10 IN+ (in)

## INA260
designator U?
INA260 / Precision Digital Current and Power Monitor With Low-Drift, Precision Integrated Shunt
footprint TSSOP-16 (INA260)
pins: 1 IN+ (in), 2 IN+ (in), 3 IN+ (in), 4 A1 (io), 5 AO (io), 6 GND (power), 7 ALERT (out), 8 SDA (io), 9 SCL (in), 10 VS (power), 11 GND (power), 12 VBUS (power), 14 IN- (out), 15 IN- (out), 16 IN- (out)

## Inductor
designator L?
signal-integrity model Inductor
pins: 1, 2

## IR4427
designator U?  (value not drawn)
Dual High-Speed 1.5A MOSFET Driver; MANF: Infineon; MANF_P#: IR4427SPBF; PARAM: 1.5A, 20V, -40~125C
footprint SO_8 (Footprint not found)
footprint DIPSW254_4 (SWITCH DIP 4POS, THD, 2.54mm, YL04)
footprint DIP_8 (DIP, pitch 2.54mm, 300mil Width)
pins: 1 NC, 2 INA (in), 3 GND (power), 4 INB (in), 5 OUTB (out), 6 VDD (power), 7 OUTA (out), 8 NC

## IRF5305
designator Q?  (value not drawn)
MOSFET P-CHANNEL, 55V, -31A, 6mO, Vth-4.0; ASSEMBLY: ASSEMBLY; MANF_P#: IRF5305
footprint TO220_3 (TO-220 3 LEAD, TO-262, pitch: 2.54mm  10x4.5mm)
pins: 1 G, 2 D, 3 S

## IRFP260N
designator Q?  (value not drawn)
MOSFET N-chanel, 200V, 50A,  40mO; MANF_P#: IRFP; ASSEMBLY: ASSEMBLY
footprint TO247_3 (TO247, TO-247, TO-3P pitch: 5.5mm 16x5mm, TO-218)
pins: 1 G, 2 D, 3 S

## Jumper
designator JP?
Jumper 2.54mm; Company: E.P.I.L; Defualt State: Close; Design Date: 2011/11/02
footprint Jumper Small - 2.54 - Green (Designer Abbas Basereh)
pins: 1, 2

## L9848
designator U?
Octal configurable low/high side driver
footprint SOIC127P1032X265-28N
pins: 1 GND (power), 2 VDD (power), 3 RDN8, 4 SRC2, 5 DRN2, 6 SRC1, 7 DRN1, 8 N.C., 9 IN6 (in), 10 SRC6, 11 DRN6, 12 N.C., 13 N.C., 14 SKLC (in), 15 DI (in), 16 CS (in), 17 N.C., 18 DRN5, 19 SRC5, 20 IN5 (in), 21 N.C., 22 DRN3, 23 SRC3, 24 DRN4, 25 SRC4, 26 DRN7, 27 N.C., 28 DO (out)

## LDO_regulator
designator U?
LDO voltage regulator
footprint SOT_23_5
pins: 1 Vdd (power), 2 GND (power), 3 CE (power), 4 ECO (power), 5 Vout (power)

## LED
designator LED?
LED; color: *
footprint LED_5MM_BLU (LED 5MM DIP BLUE)
footprint LED_1206 (LED, 1206,)
footprint LED_3528_1
footprint LED_3528_2
footprint LED_5MM_GRN (LED 5MM DIP GREEN)
pins: 1 ANODE, 2 CATHODE
2 alternate drawings of the same symbol

## LM2575-5HVT
designator U?, comment LM2575-5
Voltage Regulator +5V
pins: 1 Vin (power), 2 Vout (power), 3 GND (power), 4 FB (power), 5 ~{ON}/OFF (power), 6 GND (power)

## Logo_Azin
designator =BoardName
Logo of Azin Electro Idea
footprint Logo_Azin

## M74HC151Y
designator U?
a high-speed CMOS 8-channel multiplexer manufactured using silicon gate C2 MOS technology
footprint SOIC127P600X175-16N
pins: 1 D3, 2 D2, 3 D1, 4 D0, 5 Y, 6 W, 7 ~{STROBE}, 8 GND, 9 C, 10 B, 11 A, 12 D7, 13 D6, 14 D5, 15 D4, 16 VCC

## MC9S12XET256MAL
designator U?
free scale 32b microcontroller; Mfr_Name: NXP; Copyright: Copyright (C) 2022 Ultra Librarian. All rights reserved.; Manufacturer_Part_Number: MC9S12XET256MAL; RefDes: RefDes; Type: DEV
footprint LQFP112_MC9S12XET256MAL_NXP
part A pins: 1 TIMIOC3/SS1/PWM3/KWP3/PP3, 2 TIMIOC2/SCK1/PWM2/KWP2/PP2, 3 TIMIOC1/MOSI1/PWM1/KWP1/PP1, 4 TIMIOC0/MISO1/PWM0/KWP0/PP0, 5 PK3, 6 PK2, 7 PK1, 8 PK0, 9 IOC0/PT0, 10 IOC1/PT1, 11 IOC2/PT2, 12 IOC3/PT3, 15 IOC4/PT4, 16 VREGAPI/IOC5/PT5, 17 IOC6/PT6, 18 IOC7/PT7, 19 PK5, 20 PK4, 21 TXD2/KWJ1/PJ1, 22 RXD2/KWJ0/PJ0, 23 MODC/BKGD, 24 PB0, 25 PB1, 26 PB2, 27 PB3, 28 PB4, 29 PB5, 30 PB6, 31 PB7, 32 TXD5/SS2/KWH7/PH7, 33 RXD5/SCK2/KWH6/PH6, 34 TXD4/MOSI2/KWH5/PH5, 35 RXD4/MISO2/KWH4/PH4, 36 ECLK2X/XCLKS/PE7, 37 MODB/PE6, 38 MODA/PE5, 39 ECLK/PE4, 49 TXD7/SS1/KWH3/PH3, 50 RXD7/SCK1/KWH2/PH2, 51 TXD6/MOSI1/KWH1/PH1, 52 RXD6/MISO1/KWH0/PH0, 53 PE3, 54 PE2, 55 IRQ/PE1, 56 XIRQ/PE0
part B pins: 57 PA0, 58 PA1, 59 PA2, 60 PA3, 61 PA4, 62 PA5, 63 PA6, 64 PA7, 67 PAD00/AN00, 68 PAD08/AN08, 69 PAD01/AN01, 70 PAD09/AN09, 71 PAD02/AN02, 72 PAD10/AN10, 73 PAD03/AN03, 74 PAD11/AN11, 75 PAD04/AN04, 76 PAD12/AN12, 77 PAD05/AN05, 78 PAD13/AN13, 79 PAD06/AN06, 80 PAD14/AN14, 81 PAD07/AN07, 82 PAD15/AN15, 87 PM7/TXCAN3/TXCAN4/TXD3, 88 PM6/RXCAN3/RXCAN4/RXD3, 89 PS0/RXD0, 90 PS1/TXD0, 91 PS2/RXD1, 92 PS3/TXD1, 93 PS4/MISO0, 94 PS5/MOSI0, 95 PS6/SCK0, 96 PS7/SS0, 97 TEST, 98 PJ7/KWJ7/TXCAN4/SCL0/TXCAN0, 99 PJ6/KWJ6/RXCAN4/SDA0/RXCAN0, 100 PM5/TXCAN2/TXCAN0/TXCAN4/SCK0, 101 PM4/RXCAN2/RXCAN0/RXCAN4/MOSI0, 102 PM3/TXCAN1/TXCAN0/SS0, 103 PM2/RXCAN1/RXCAN0/MISO0, 104 PM1/TXCAN0, 105 PM0/RXCAN0, 108 PK7, 109 PP7/KWP7/PWM7/SCK2/TIMIOC7, 110 PP6/KWP6/PWM6/SS2/TIMIOC6, 111 PP5/KWP5/PWM5/MOSI2/TIMIOC5, 112 PP4/KWP4/PWM4/MISO2/TIMIOC4
part C pins: 13 VDDF (power), 14 VSS1 (power), 40 VSSX2 (power), 41 VDDX2 (power), 42 RESET (power), 43 VDDR (power), 44 VSS3 (power), 45 VSSPLL (power), 46 EXTAL (power), 47 XTAL (power), 48 VDDPLL (power), 65 VDD (power), 66 VSS2 (power), 83 VDDA1 (power), 84 VRH (power), 85 VRL (power), 86 VSSA1 (power), 106 VSSX1 (power), 107 VDDX1 (power)

## MC74HC4851A
designator U?
Analog Multiplexers/ / Demultiplexers with / Injection Current Effect / Control
pins: 1 X4, 2 X6, 3 X, 4 X7, 5 X5, 6 Enable, 7 NC, 8 GND, 9 C, 10 B, 11 A, 12 X3, 13 X0, 14 X1, 15 X2, 16 Vcc

## MC33662LEF
designator U?
LIN Physical Layer
footprint SO_8 (SOP-8, 5x3.9mm body 1.27mm pitch, SOT96-1, M08A, S8, SOIC8, VO8, MS-012AA(JEDEC), R-8, 8S2, VOG8)
footprint SO_8 (SOP-8, 5x3.9mm body 1.27mm pitch, SOT96-1, M08A, S8, SOIC8, VO8, MS-012AA(JEDEC), R-8, 8S2, VOG8)
pins: 1 RXD, 2 EN, 3 WAKE, 4 TXD, 5 GND, 6 LIN, 7 VSUP, 8 INH

## MCP23S17
designator U?
16-bit I/O expander with SPI interface
footprint SSOP28_Body 5.30 mm (28-Lead Plastic shrink small outline)
pins: 1 GPB0 (io), 2 GPB1 (io), 3 GPB2 (io), 4 GPB3 (io), 5 GPB4 (io), 6 GPB5 (io), 7 GPB6 (io), 8 GPB7 (io), 9 Vdd, 10 Vss, 11 ~{CS} (in), 12 SCK (in), 13 SI (in), 14 SO (out), 15 A0 (in), 16 A1 (in), 17 A2 (in), 18 ~{RESET} (in), 19 INTB (out), 20 INTA (out), 21 GPA0 (io), 22 GPA1 (io), 23 GPA2 (io), 24 GPA3 (io), 25 GPA4 (io), 26 GPA5 (io), 27 GPA6 (io), 28 GPA7 (io)

## MCP41X1
designator U?
7/8-Bit Single/Dual SPI Digital POT with Volatile Memory
footprint SO_8 (SOP-8, 5x3.9mm body 1.27mm pitch, SOT96-1, M08A, S8, SOIC8, VO8, MS-012AA(JEDEC), R-8, 8S2, VOG8)
pins: 1 ~{CS} (in), 2 SCK (in), 3 SDI/SDO (io), 4 Vss (power), 5 PoA (in), 6 PoW (in), 7 PoB (in), 8 Vdd (power)

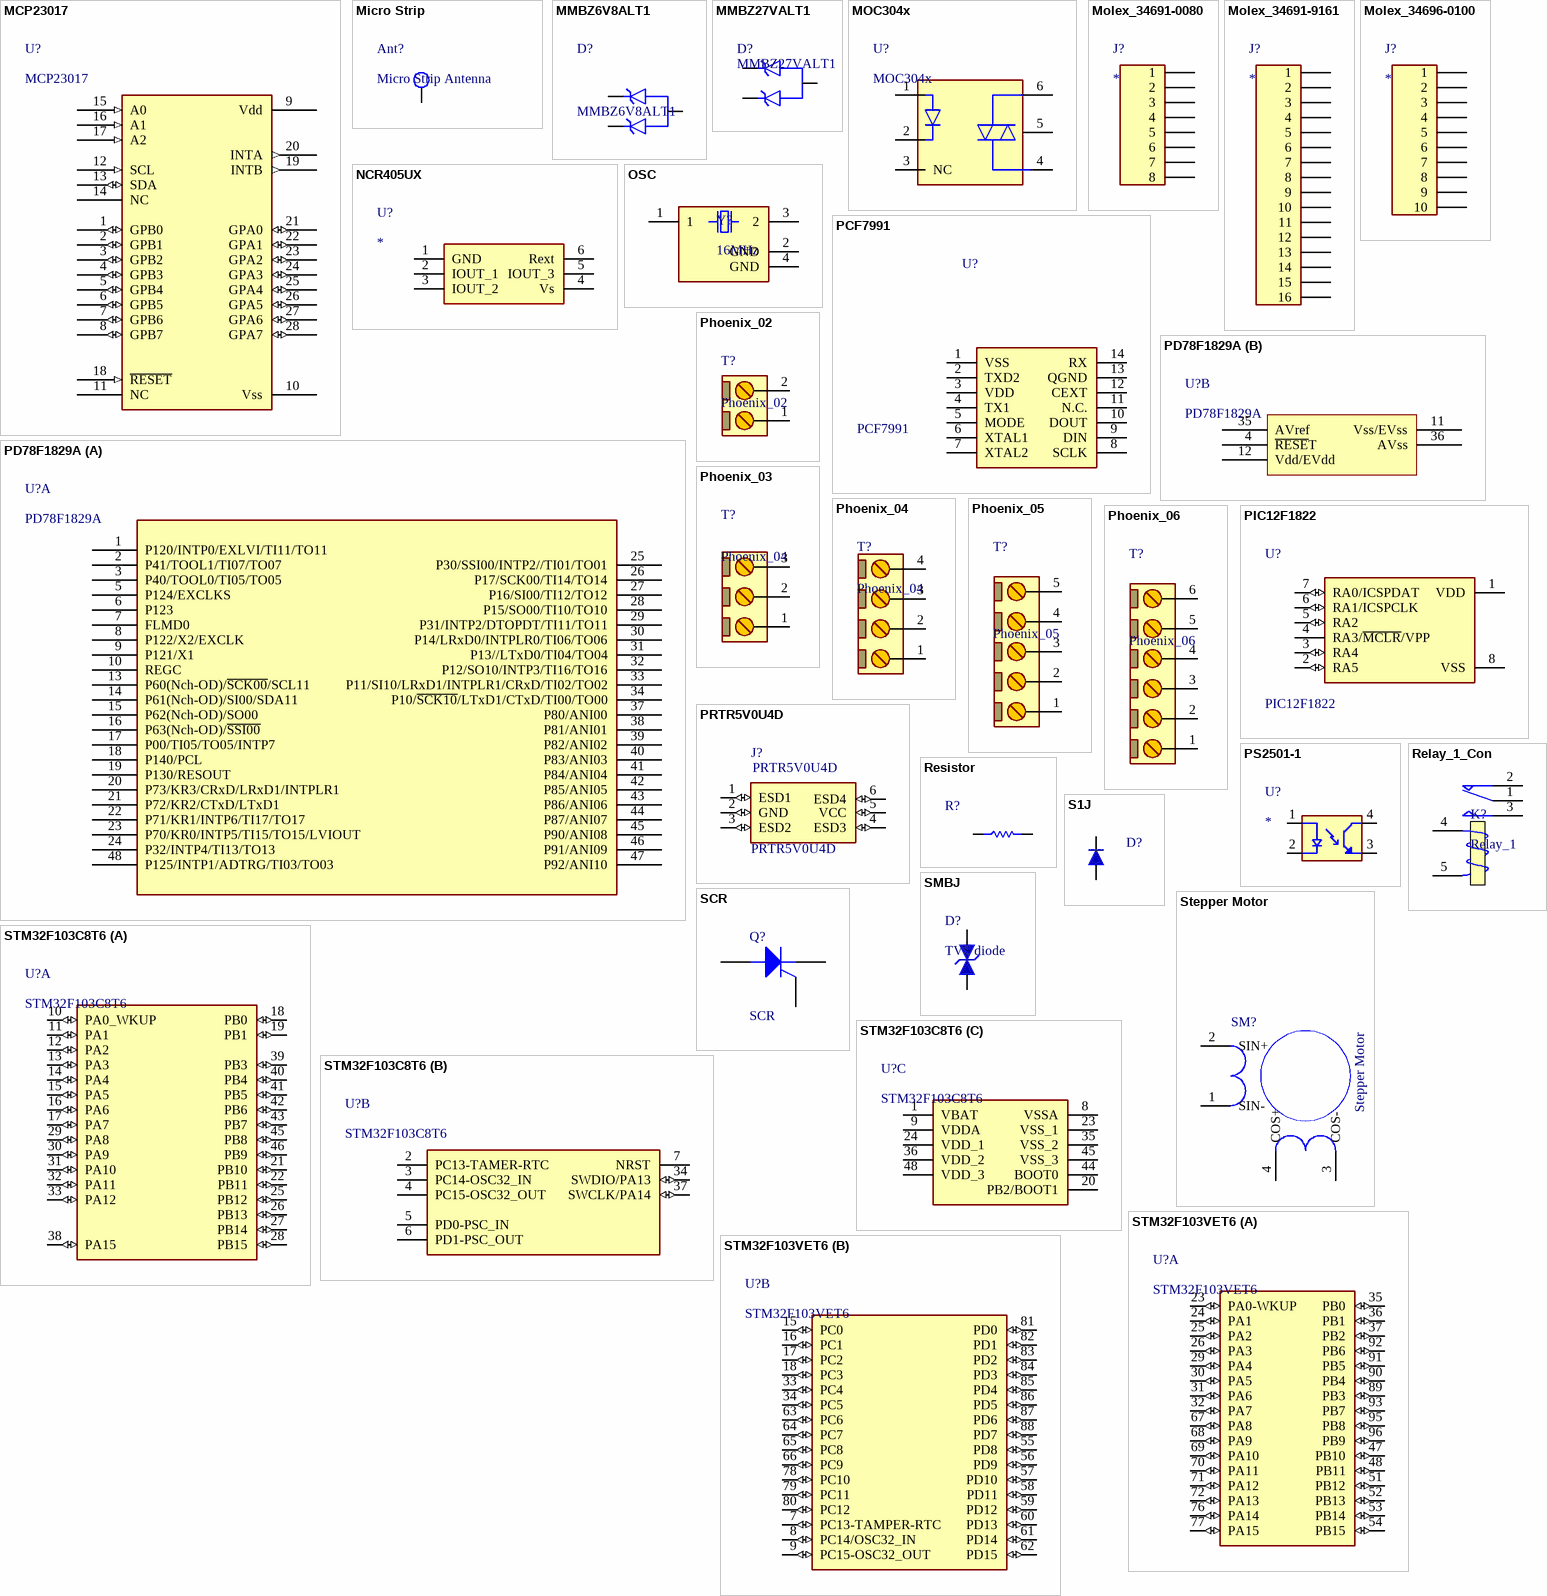
[diagram p3: symbols MCP23017 to STM32F103VET6]

## MCP23017
designator U?
16-bit I/O expander with I2C Interface
footprint SSOP28_Body 5.30 mm (28-Lead Plastic shrink small outline)
pins: 1 GPB0 (io), 2 GPB1 (io), 3 GPB2 (io), 4 GPB3 (io), 5 GPB4 (io), 6 GPB5 (io), 7 GPB6 (io), 8 GPB7 (io), 9 Vdd, 10 Vss, 11 NC (hiz), 12 SCL (in), 13 SDA (io), 14 NC (hiz), 15 A0 (in), 16 A1 (in), 17 A2 (in), 18 ~{RESET} (in), 19 INTB (out), 20 INTA (out), 21 GPA0 (io), 22 GPA1 (io), 23 GPA2 (io), 24 GPA3 (io), 25 GPA4 (io), 26 GPA5 (io), 27 GPA6 (io), 28 GPA7 (io)

## Micro Strip
designator Ant?, comment Micro Strip Antenna
footprint Microstrip
pins: 1 I (power)

## MMBZ6V8ALT1
designator D?
6.8 V Dual Common Anode Zener Diode Transient Voltage Suppressor; MF: ON Semiconductor; MP: MMBZ6V8ALT1; Availability: In Stock; Purchase-URL: https://pricing.snapeda.com/search/part/MMBZ6V8ALT1/?ref=eda; Package: SOT-23-3 ON Semiconductor; Check_prices: https://www.snapeda.com/parts/MMBZ6V8ALT1/Onsemi/view-part/?ref=eda; Value: *; SnapEDA_Link: https://www.snapeda.com/parts/MMBZ6V8ALT1/Onsemi/view-part/?ref=snap; Price: None
footprint SOT95P237X111-3N
pins: 1 K1, 2 K2, 3 A

## MMBZ27VALT1
designator D?
27 Volt Dual Zener Diod
footprint Diode 1n4148 SMD (Mini MELF SOD-80)
footprint SOT23_N
footprint SOT23_N
footprint SOT23_N
pins: 1 K1, 2 K2, 3 A

## MOC304x
designator U?
6 Pin Zero-cross Optoisolators Traic Driver Output
pins: 1 Anode, 2 Cathode, 3 NC, 4 Main terminal, 5 NC, 6 Main terminal

## Molex_34691-0080
designator J?
8 Pin Male automative plastic connector; Designer: A. Alizadeh
footprint Molex-34691-0080
pins: 1, 2, 3, 4, 5, 6, 7, 8

## Molex_34691-9161
designator J?
16 Pin Male automative plastic connector; Desginer: A. Alizadeh
footprint Molex-34691-9160 (9160 and 9161)
pins: 1, 2, 3, 4, 5, 6, 7, 8, 9, 10, 11, 12, 13, 14, 15, 16

## Molex_34696-0100
designator J?
10 Pin Male automative plastic connector; Designer: A. Alizadeh
footprint MOLEX-34696-1000
pins: 1, 2, 3, 4, 5, 6, 7, 8, 9, 10

## NCR405UX
designator U?
50mA LED driver in SOT457
footprint SOT457
pins: 1 GND (power), 2 IOUT_1 (power), 3 IOUT_2 (power), 4 Vs (power), 5 IOUT_3 (power), 6 Rext (power)

## OSC
designator Y?, comment 16MHz
16MHz Â±10ppm Crystal 9pF 60 Ohms 4-SMD, No Lead; MP: TSX-3225 16.0000MF18X-AC3; MF: EPSON; Availability: Unavailable; Package: SMD-4 Epson; SnapEDA_Link: https://www.snapeda.com/parts/TSX-3225%2016.0000MF18X-AC3/EPSON/view-part/105674/?ref=snap; Price: None
footprint XTAL_3225 (XTAL_TSX-3225_16.0000MF18X-AC3)
pins: 1, 2 GND (power), 3 2, 4 GND (power)

## PCF7991
designator U?
Advanced Basestation IC
footprint SO14_M (14-Pin Small Outline Integrated Circuit 1.27 mm Pitch, IPC Low Density - Designer Abbas Basereh)
pins: 1 VSS, 2 TXD2, 3 VDD, 4 TX1, 5 MODE, 6 XTAL1, 7 XTAL2, 8 SCLK, 9 DIN, 10 DOUT, 11 N.C., 12 CEXT, 13 QGND, 14 RX

## PD78F1829A
designator U?
Renesas  16 bit microcontroller
footprint LQFP-48
part A pins: 1 P120/INTP0/EXLVI/TI11/TO11, 2 P41/TOOL1/TI07/TO07, 3 P40/TOOL0/TI05/TO05, 5 P124/EXCLKS, 6 P123, 7 FLMD0, 8 P122/X2/EXCLK, 9 P121/X1, 10 REGC, 13 P60(Nch-OD)/~{SCK00}/SCL11, 14 P61(Nch-OD)/SI00/SDA11, 15 P62(Nch-OD)/SO00, 16 P63(Nch-OD)/~{SSI00}, 17 P00/TI05/TO05/INTP7, 18 P140/PCL, 19 P130/RESOUT, 20 P73/KR3/CRxD/LRxD1/INTPLR1, 21 P72/KR2/CTxD/LTxD1, 22 P71/KR1/INTP6/TI17/TO17, 23 P70/KR0/INTP5/TI15/TO15/LVIOUT, 24 P32/INTP4/TI13/TO13, 25 P30/SSI00/INTP2//TI01/TO01, 26 P17/SCK00/TI14/TO14, 27 P16/SI00/TI12/TO12, 28 P15/SO00/TI10/TO10, 29 P31/INTP2/DTOPDT/TI11/TO11, 30 P14/LRxD0/INTPLR0/TI06/TO06, 31 P13//LTxD0/TI04/TO04, 32 P12/SO10/INTP3/TI16/TO16, 33 P11/SI10/LRxD1/INTPLR1/CRxD/TI02/TO02, 34 P10/~{SCK10}/LTxD1/CTxD/TI00/TO00, 37 P80/ANI00, 38 P81/ANI01, 39 P82/ANI02, 40 P83/ANI03, 41 P84/ANI04, 42 P85/ANI05, 43 P86/ANI06, 44 P87/ANI07, 45 P90/ANI08, 46 P91/ANI09, 47 P92/ANI10, 48 P125/INTP1/ADTRG/TI03/TO03
part B pins: 4 ~{RESE}T (power), 11 Vss/EVss (power), 12 Vdd/EVdd (power), 35 AVref (power), 36 AVss (power)

## Phoenix_02
designator T?
2 Pitch: 5 mm Color: green Contact surface: Tin Assembly; Manufacturer: PHOENIX CONTACT; Connector type: PCB Terminal Block; designer: ABBAS BASEREH; Max Current: 12 A; Positions: 2; Voltage: 320 V; Category: Connector; ComponentLink1Description: Header, Nominal current: 12 A Rated voltage (III/2): 320 V Number of positions: 2 Pitch: 5 mm Color: green Contact surface: Tin Assembly: Soldering  DESIGNER:ABBAS BASEREH; ComponentLink2Description: Reference; Mounting Technology: Through-Hole; Pin Count: 2; Revision 1: 2017-3-1; Status: Unreleased; PART.NO: PHOENIX
signal-integrity model CON-2P (CON-PHOENIX)
footprint MSTBV 2,5/2-G-5 (Header, Nominal current: 12 A Rated voltage (III/2): 320 V Number of positions: 2 Pitch: 5mm Color: green Contact surface: Tin Assembly: Soldering DESIGNER:ABBAS BASEREH)
footprint MSTBV 2,5/2-G-5 (Header, Nominal current: 12 A Rated voltage (III/2): 320 V Number of positions: 2 Pitch: 5mm Color: green Contact surface: Tin Assembly: Soldering DESIGNER:ABBAS BASEREH)
footprint MSTB 2,5/2-G-5 (Header, Nominal current: 12 A Rated voltage (III/2): 320 V Number of positions: 2 Pitch: 5.08 mm Color: green Contact surface: Tin Assembly: Soldering DESIGNER:ABBAS BASEREH)
pins: 1, 2

## Phoenix_03
designator T?, comment Phoenix_04
3 Pitch: 5 mm Color: green Contact surface: Tin Assembly; Manufacturer: PHOENIX CONTACT; Connector type: PCB Terminal Block; designer: ABBAS BASEREH; Max Current: 12 A; Positions: 2; Voltage: 320 V; Category: Connector; ComponentLink1Description: Header, Nominal current: 12 A Rated voltage (III/2): 320 V Number of positions: 2 Pitch: 5 mm Color: green Contact surface: Tin Assembly: Soldering  DESIGNER:ABBAS BASEREH; ComponentLink2Description: Reference; Mounting Technology: Through-Hole; Pin Count: 2; Revision 1: 2017-3-1; Status: Unreleased; PART.NO: PHOENIX
signal-integrity model CON-2P (CON-PHOENIX)
footprint MSTBV 2,5/3-G-5 (Header, Nominal current: 12 A Rated voltage (III/2): 320 V Number of positions: 3 Pitch: 5mm Color: green Contact surface: Tin Assembly: Soldering  DESIGNER:ABBAS BASEREH)
pins: 1, 2, 3

## Phoenix_04
designator T?
4 Pitch: 5 mm Color: green Contact surface: Tin Assembly; Manufacturer: PHOENIX CONTACT; Connector type: PCB Terminal Block; designer: ABBAS BASEREH; Max Current: 12 A; Positions: 2; Voltage: 320 V; Category: Connector; ComponentLink1Description: Header, Nominal current: 12 A Rated voltage (III/2): 320 V Number of positions: 2 Pitch: 5 mm Color: green Contact surface: Tin Assembly: Soldering  DESIGNER:ABBAS BASEREH; ComponentLink2Description: Reference; Mounting Technology: Through-Hole; Pin Count: 2; Revision 1: 2017-3-1; Status: Unreleased; PART.NO: PHOENIX
signal-integrity model CON-2P (CON-PHOENIX)
pins: 1, 2, 3, 4

## Phoenix_05
designator T?
5 Pitch: 5 mm Color: green Contact surface: Tin Assembly; Manufacturer: PHOENIX CONTACT; Connector type: PCB Terminal Block; designer: ABBAS BASEREH; Max Current: 12 A; Positions: 5; Voltage: 320 V; Category: Connector; ComponentLink1Description: Header, Nominal current: 12 A Rated voltage (III/2): 320 V Number of positions: 5 Pitch: 5 mm Color: green Contact surface: Tin Assembly: Soldering  DESIGNER:ABBAS BASEREH; ComponentLink2Description: Reference; Mounting Technology: Through-Hole; Pin Count: 5; Revision 1: 2017-3-1; Status: Unreleased; PART.NO: PHOENIX
signal-integrity model CON-5P (CON-PHOENIX)
footprint MSTBV 2,5/5-G-5 (Header, Nominal current: 12 A Rated voltage (III/2): 320 V Number of positions: 5 Pitch: 5mm Color: green Contact surface: Tin Assembly: Soldering  DESIGNER ABBAS BASEREH)
pins: 1, 2, 3, 4, 5

## Phoenix_06
designator T?
6 Pitch: 5 mm Color: green Contact surface: Tin Assembly; Manufacturer: PHOENIX CONTACT; Connector type: PCB Terminal Block; designer: ABBAS BASEREH; Max Current: 12 A; Positions: 5; Voltage: 320 V; Category: Connector; ComponentLink1Description: Header, Nominal current: 12 A Rated voltage (III/2): 320 V Number of positions: 5 Pitch: 5 mm Color: green Contact surface: Tin Assembly: Soldering  DESIGNER:ABBAS BASEREH; ComponentLink2Description: Reference; Mounting Technology: Through-Hole; Pin Count: 5; Revision 1: 2017-3-1; Status: Unreleased; PART.NO: PHOENIX
signal-integrity model CON-5P (CON-PHOENIX)
footprint MSTBV 2,5/6-G-5 (Header, Nominal current: 12 A Rated voltage (III/2): 320 V Number of positions: 6 Pitch: 5mm Color: green Contact surface: Tin Assembly: Soldering  DESIGNER ABBAS BASEREH)
pins: 1, 2, 3, 4, 5, 6

## PIC12F1822
designator U?
PIC Microcontroller with XLP Technology, 32 MHz, 5 I/O, -40 to 85 degC, 8-pin SOIC (SN8); Manufacturer: Microchip; PartNumber: PIC12F1822-I/SN; I/O Pins: 5; Digital Communication: 1 -A/E/USART, 1 -MSSP(SPI/I2C); # of A/D Channels: 4; Timers: 2 - 8-bit, 1 - 16-bit, 0 - 32-bit; EEPROM Data Memory (bytes): 256; RAM: 128; Program Memory KBytes: 3.5; Operation Voltage Range: 1.8V - 5.5V; Internal Oscillator: 32 MHz, 31 kHz; Packing: TUBE; Memory Type: Flash; Max. CPU Speed MHz: 32; Program Memory KWords: 2; PackageDescription: 8-Lead Plastic Small Outline, 4.9 x 3.9 mm Body, 1.27 mm Pitch; ComponentLink3URL: Product URL:http://www.microchip.com/datasheet/PIC12F1822; ComponentLink1URL: http://ww1.microchip.com/downloads/en/DeviceDoc/41413C.pdf; ComponentLink2Description: Package Specification; PackageReference: SOIC-SN8; DatasheetVersion: Rev. C; ComponentLink3Description: URL Link1; ComponentLink2URL: http://www.microchip.com/stellent/groups/techpub_sg/documents/packagingspec/en012702.pdf; RoHS: TRUE; Mounting Technology: Surface Mount; ComponentLink1Description: Datasheet; PackageVersion: C04-057C, 12/2012
footprint SO_8 (SOP-8, 5x3.9mm body 1.27mm pitch, SOT96-1, M08A, S8, SOIC8, VO8, MS-012AA(JEDEC), R-8, 8S2, VOG8)
pins: 1 VDD (power) "Positive supply.", 2 RA5 (io), 3 RA4 (io), 4 RA3/~{MCLR}/VPP, 5 RA2 (io), 6 RA1/ICSPCLK (io), 7 RA0/ICSPDAT (io), 8 VSS (power) "Ground reference."

## PRTR5V0U4D
designator J?
ESD Suppressor Diode Diode Array Uni-Dir 5.5V Automotive 6-Pin TSOP T/R
footprint PRTR5V0U4D (SOT457 (SC-74)  TSOP-6)
pins: 1 ESD1 (io), 2 GND (io), 3 ESD2 (io), 4 ESD3 (io), 5 VCC (io), 6 ESD4 (io)

## PS2501-1
designator U?
High isolation voltage (BV = 5 000 Vr.m.s.) / High collector to emitter voltage (VCEO = 80 V) / High-speed switching (tr = 3 µs TYP., tf = 5 µs TYP.)
footprint SOIC254P1030X460-4N
pins: 1 A, 2 C, 3 ET, 4 CT

## Relay_1_Con
designator K?, comment Relay_1
Relay one connector
pins: 1 COM, 2 NC, 3 NO, 4 T1, 5 T2

## Resistor
designator R?
Resistor; Tolerance: 5%; Designer: Amir Alizadeh
simulation model Model Name (Model Description)
footprint SMD0402 (2-Leads, Body 1/00x0/50mm)
footprint SMD0603 (2-Leads, Body 1/60x0/80mm)
footprint SMD0805 (2-Leads, Body 2/00x1/25mm)
footprint SMD1206 (2-Leads, Body 3/20x1/60mm)
footprint SMD2010 (2-Leads, Body 5/00x2/50mm)
footprint SMD2512 (Chip Resistor, 2-Leads, Body 6.3x3.1mm, IPC High Density _ (0.500 W))
footprint Axial 3W 9_0mm (Designer Abbas Basereh)
pins: 1, 2

## S1J
designator D?  (value not drawn)
Diode General Purpose 600V 1A SMD; Max Forward Surge Current (Ifsm): 30A; Forward Voltage: 1.1V; Recovery Time: 1800ns; Element Configuration: Single; Max Surge Current: 40A; Max Reverse Current: 1uA; Reverse Recovery Time: 1.8us; Capacitance: 12pF; Polarity: Standard; Power Dissipation: 1.4W; Height: 2.2mm; Peak Non-Repetitive Surge Current: 30A; Average Rectified Current: 1A; Current Rating: 1A; Mount: Surface Mount; Lead Free: Lead Free; Voltage: 600V; Max Operating Temperature: 150°C; Packaging: Tape and Reel; Max Reverse Voltage (DC): 600V; Voltage Rating (DC): 600V; Reverse Voltage: 600V; Case/Package: SMA; Current: 1A; RoHS Compliant: No; Forward Current: 1A; Min Operating Temperature: -55°C; Max Repetitive Reverse Voltage (Vrrm): 600V; Package Quantity: 1; Width: 2.95mm; Number of Pins: 2; Length: 4.75mm; Radiation Hardening: No; REACH SVHC: No SVHC; Output Current: 1A; Contact Plating: Tin
footprint IND0805 (Chip Inductor, 2-Leads, Body 2/00x1/25mm, IPC Medium Density DESIGNER:ABBAS BASEREH)
pins: 1, 2

## SCR
designator Q?
Silicon Controlled Rectifier; Published: 8-Jun-2000; LatestRevisionDate: 17-Jul-2002; LatestRevisionNote: Re-released for DXP Platform.; PackageReference: TO-220-AB; Publisher: Altium Limited; Code_JEDEC: TO-220-AB
footprint TO220_3
pins: 1 K, 2 A, 3 G

## SMBJ
designator D?, comment TVS diode
Bi-directional transients voltage suppression / SMBJ12A -> 12 volta reverse stand off voltage
footprint DO-214AA (D-SMB)
pins: 1, 2

## Stepper Motor
designator SM?
footprint ATLAS-Cluster-StepperMotor
footprint STEPPER MOTOR
pins: 1 SIN-, 2 SIN+, 3 COS-, 4 COS+
2 alternate drawings of the same symbol

## STM32F103C8T6
designator U?
ARMÂ® CortexÂ®-M3 STM32F103 Microcontroller IC 32-Bit 72MHz 512KB (512K x 8) FLASH 48-LQFP (12x12); MP: STM32F103VET6; MF: STMicroelectronics; Price: None; Package: LQFP-100; Check_prices: https://www.snapeda.com/parts/STM32F103VET6/STMicroelectronics/view-part/?ref=eda; Value: *; Availability: Unavailable; SnapEDA_Link: https://www.snapeda.com/parts/STM32F103VET6/STMicroelectronics/view-part/?ref=snap
footprint LQFP-48
part A pins: 10 PA0_WKUP (io), 11 PA1 (io), 12 PA2 (io), 13 PA3 (io), 14 PA4 (io), 15 PA5 (io), 16 PA6 (io), 17 PA7 (io), 18 PB0 (io), 19 PB1 (io), 21 PB10 (io), 22 PB11 (io), 25 PB12 (io), 26 PB13 (io), 27 PB14 (io), 28 PB15 (io), 29 PA8 (io), 30 PA9 (io), 31 PA10 (io), 32 PA11 (io), 33 PA12 (io), 38 PA15 (io), 39 PB3 (io), 40 PB4 (io), 41 PB5 (io), 42 PB6 (io), 43 PB7 (io), 45 PB8 (io), 46 PB9 (io)
part B pins: 2 PC13-TAMER-RTC, 3 PC14-OSC32_IN, 4 PC15-OSC32_OUT, 5 PD0-PSC_IN, 6 PD1-PSC_OUT, 7 NRST, 34 SWDIO/PA13 (io), 37 SWCLK/PA14 (io)
part C pins: 1 VBAT, 8 VSSA, 9 VDDA, 20 PB2/BOOT1, 23 VSS_1, 24 VDD_1, 35 VSS_2, 36 VDD_2, 44 BOOT0, 45 VSS_3, 48 VDD_3

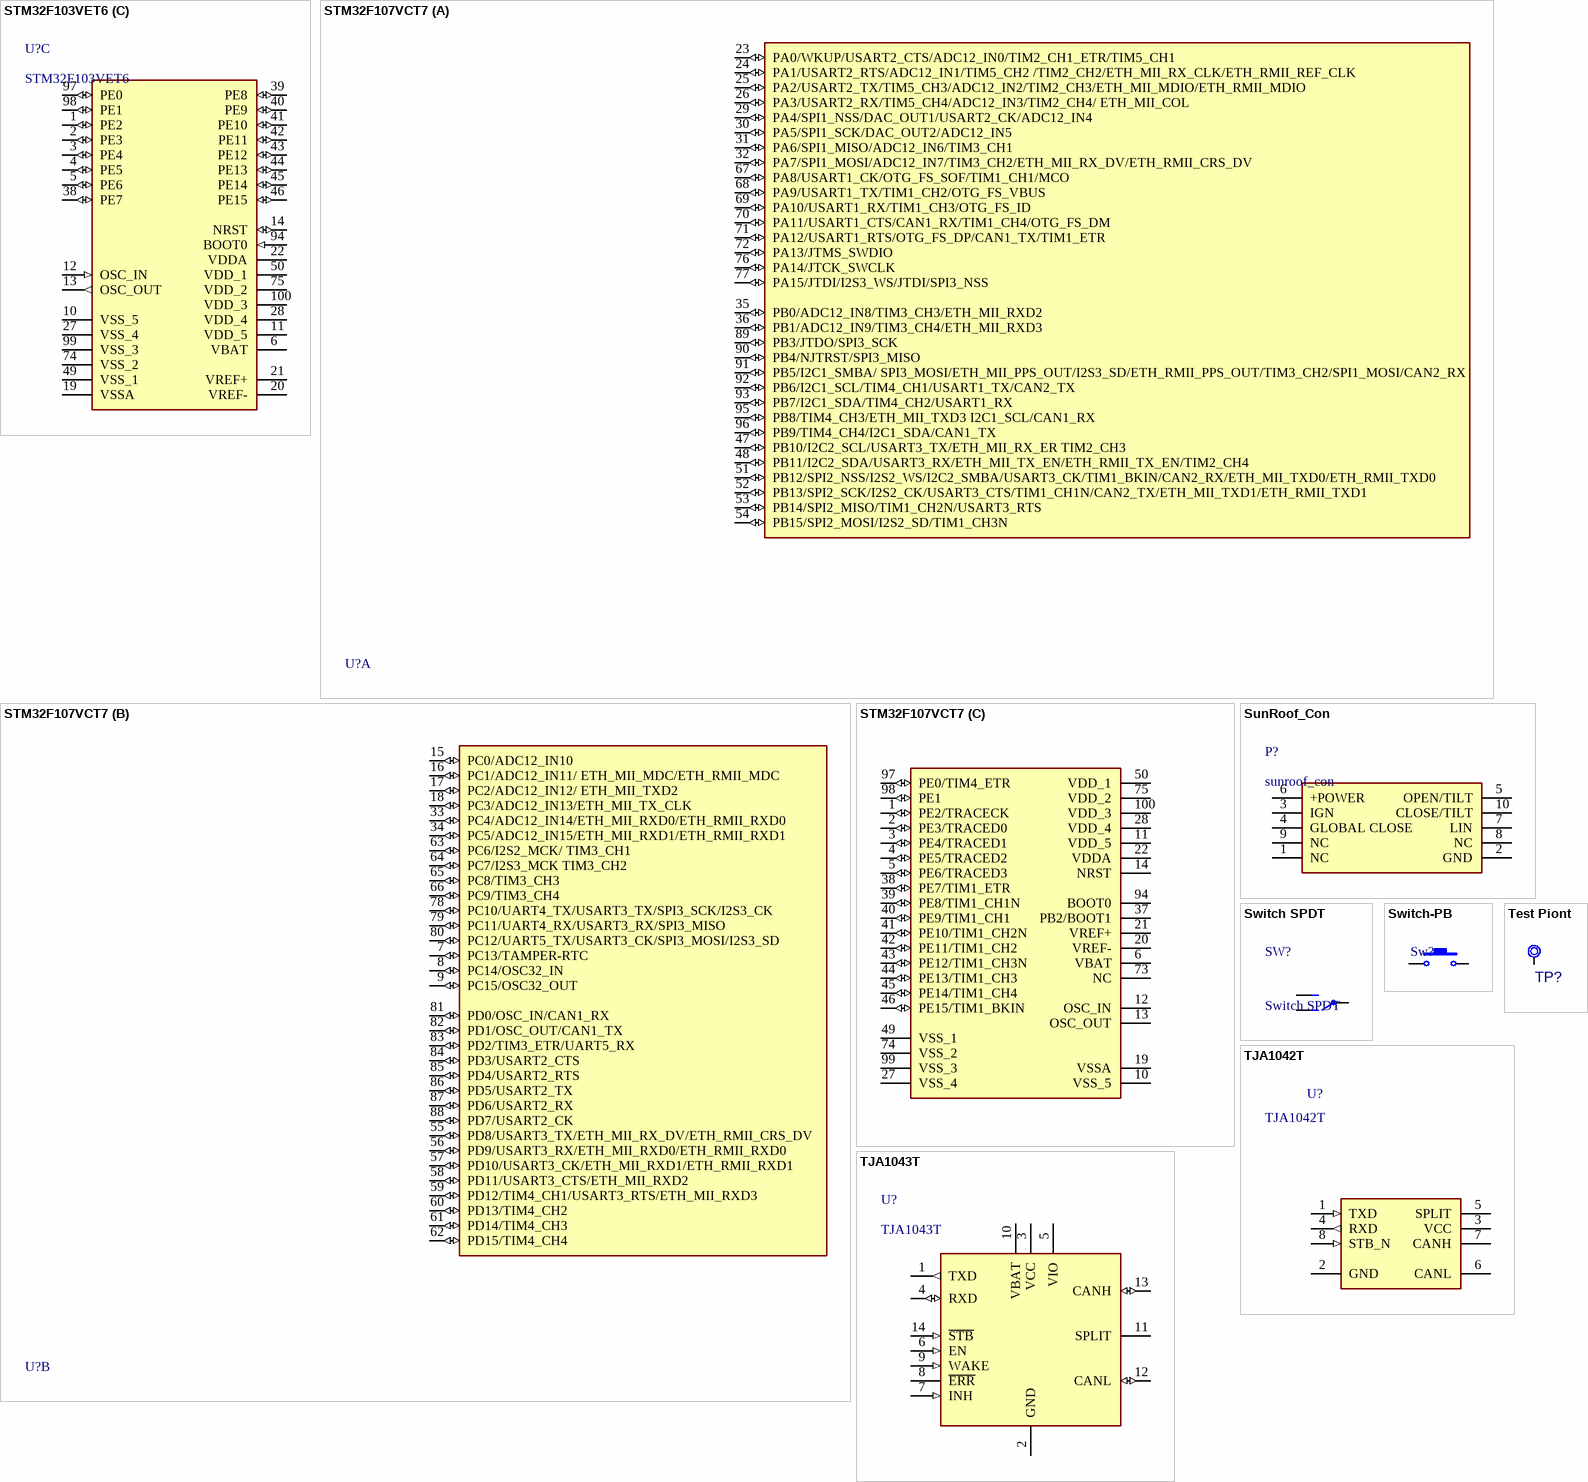
[diagram p4: symbols STM32F103VET6 to TJA1043T]

## STM32F103VET6
designator U?
ARMÂ® CortexÂ®-M3 STM32F1 Microcontroller IC 32-Bit 72MHz 512KB (512K x 8) FLASH 100-LQFP (14x14); MF: STMicroelectronics; MP: STM32F103VET6; Price: None; Package: LQFP-100; Check_prices: https://www.snapeda.com/parts/STM32F103VET6/STMicroelectronics/view-part/?ref=eda; Value: *; Availability: Unavailable; SnapEDA_Link: https://www.snapeda.com/parts/STM32F103VET6/STMicroelectronics/view-part/?ref=snap
footprint QFP50P1600X1600X160-100N
part A pins: 23 PA0-WKUP (io), 24 PA1 (io), 25 PA2 (io), 26 PA3 (io), 29 PA4 (io), 30 PA5 (io), 31 PA6 (io), 32 PA7 (io), 35 PB0 (io), 36 PB1 (io), 37 PB2 (io), 47 PB10 (io), 48 PB11 (io), 51 PB12 (io), 52 PB13 (io), 53 PB14 (io), 54 PB15 (io), 67 PA8 (io), 68 PA9 (io), 69 PA10 (io), 70 PA11 (io), 71 PA12 (io), 72 PA13 (io), 76 PA14 (io), 77 PA15 (io), 89 PB3 (io), 90 PB4 (io), 91 PB5 (io), 92 PB6 (io), 93 PB7 (io), 95 PB8 (io), 96 PB9 (io)
part B pins: 7 PC13-TAMPER-RTC (io), 8 PC14/OSC32_IN (io), 9 PC15-OSC32_OUT (io), 15 PC0 (io), 16 PC1 (io), 17 PC2 (io), 18 PC3 (io), 33 PC4 (io), 34 PC5 (io), 55 PD8 (io), 56 PD9 (io), 57 PD10 (io), 58 PD11 (io), 59 PD12 (io), 60 PD13 (io), 61 PD14 (io), 62 PD15 (io), 63 PC6 (io), 64 PC7 (io), 65 PC8 (io), 66 PC9 (io), 78 PC10 (io), 79 PC11 (io), 80 PC12 (io), 81 PD0 (io), 82 PD1 (io), 83 PD2 (io), 84 PD3 (io), 85 PD4 (io), 86 PD5 (io), 87 PD6 (io), 88 PD7 (io)
part C pins: 1 PE2 (io), 2 PE3 (io), 3 PE4 (io), 4 PE5 (io), 5 PE6 (io), 6 VBAT (power), 10 VSS_5 (power), 11 VDD_5 (power), 12 OSC_IN (in), 13 OSC_OUT (out), 14 NRST (io), 19 VSSA (power), 20 VREF- (power), 21 VREF+ (power), 22 VDDA (power), 27 VSS_4 (power), 28 VDD_4 (power), 38 PE7 (io), 39 PE8 (io), 40 PE9 (io), 41 PE10 (io), 42 PE11 (io), 43 PE12 (io), 44 PE13 (io), 45 PE14 (io), 46 PE15 (io), 49 VSS_1 (power), 50 VDD_1 (power), 74 VSS_2 (power), 75 VDD_2 (power), 94 BOOT0 (in), 97 PE0 (io), 98 PE1 (io), 99 VSS_3 (power), 100 VDD_3 (power)